# Altium integrated library Microchip Microcontroller 8-Bit PIC16F.IntLib: 732 symbols (part 13 of 26)
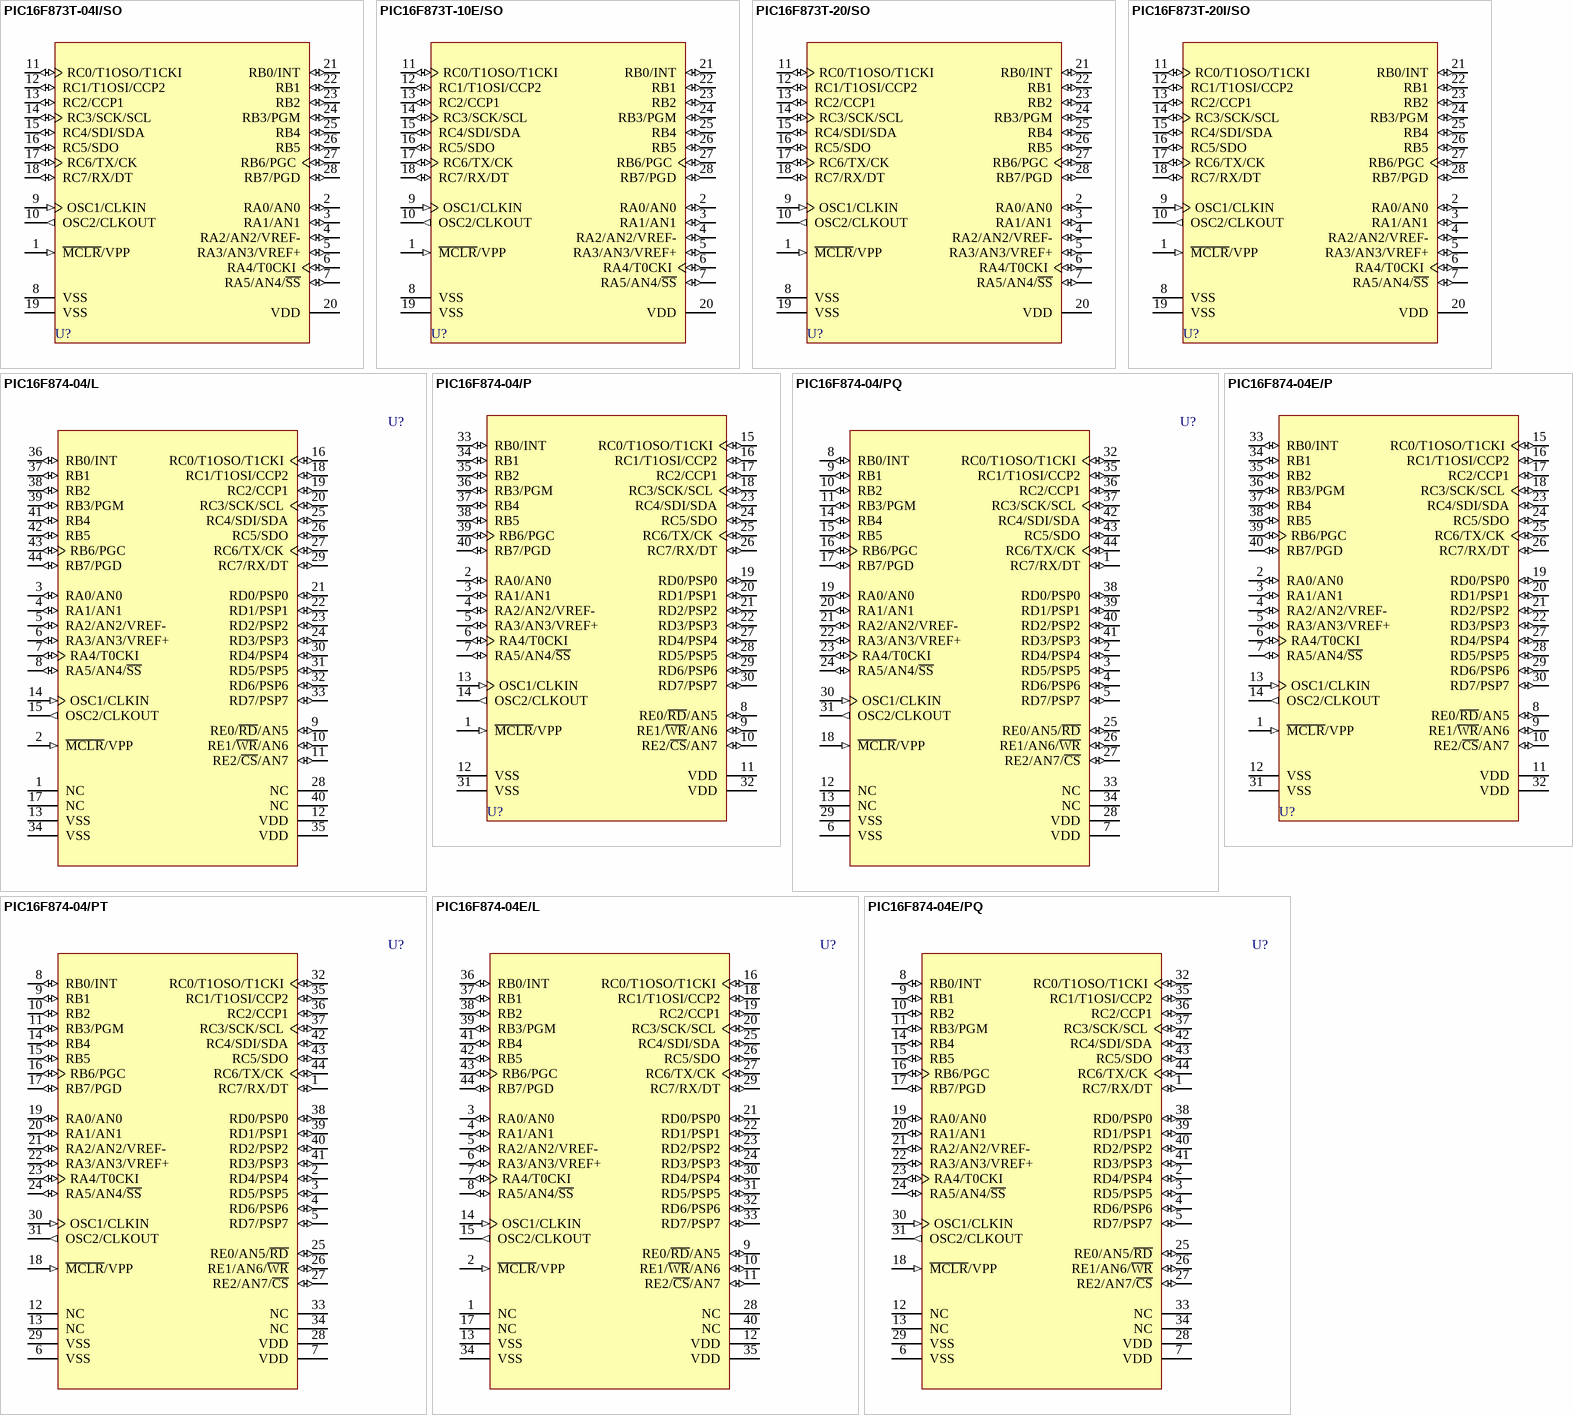
[diagram p65: symbols PIC16F873T-04I/SO to PIC16F874-04E/PQ]

## PIC16F874-04E/P
designator U?
8-Bit CMOS FLASH Microcontroller, 4K x 14 words FLASH, 192 x 8 Bytes RAM, 4 MHz, 40-Pin PDIP, 4 to 5.5V VDD Range, Extended Temperature; Note: Not recommended for new designs. Consider PIC16F874A instead.; Published: 11-Oct-2004; LatestRevisionDate: 04-Mar-2005; LatestRevisionNote: Stylized 3D Model Added.; DatasheetVersion: DS30292C_2001; PackageVersion: 2003; PackageReference: PDIP600-40; Publisher: Altium Limited; PackageDescription: DIP, Plastic; 40 Leads; Row Spacing 15.24 mm; Pitch 2.54 mm; Code_JEDEC: MO-011; ComponentLink1Description: Manufacturer Link; ComponentLink1URL: http://www.microchip.com; ComponentLink2Description: Datasheet; ComponentLink2URL: http://ww1.microchip.com/downloads/en/DeviceDoc/30292c.pdf; ComponentLink3Description: Packaging Specification; ComponentLink3URL: http://ww1.microchip.com/downloads/en/PackagingSpec/00049AD.pdf
footprint PDIP600-40 (DIP, Plastic; 40 Leads; Row Spacing 15.24 mm; Pitch 2.54 mm)
3D model PDIP600-40 (DIP, Plastic; 40 Leads; Row Spacing 15.24 mm; Pitch 2.54 mm)
pins: 1 ~{MCLR}/VPP (in), 2 RA0/AN0 (io), 3 RA1/AN1 (io), 4 RA2/AN2/VREF- (io), 5 RA3/AN3/VREF+ (io), 6 RA4/T0CKI (io), 7 RA5/AN4/~{SS} (io), 8 RE0/~{RD}/AN5 (io), 9 RE1/~{WR}/AN6 (io), 10 RE2/~{CS}/AN7 (io), 11 VDD (power), 12 VSS (power), 13 OSC1/CLKIN (in), 14 OSC2/CLKOUT (out), 15 RC0/T1OSO/T1CKI (io), 16 RC1/T1OSI/CCP2 (io), 17 RC2/CCP1 (io), 18 RC3/SCK/SCL (io), 19 RD0/PSP0 (io), 20 RD1/PSP1 (io), 21 RD2/PSP2 (io), 22 RD3/PSP3 (io), 23 RC4/SDI/SDA (io), 24 RC5/SDO (io), 25 RC6/TX/CK (io), 26 RC7/RX/DT (io), 27 RD4/PSP4 (io), 28 RD5/PSP5 (io), 29 RD6/PSP6 (io), 30 RD7/PSP7 (io), 31 VSS (power), 32 VDD (power), 33 RB0/INT (io), 34 RB1 (io), 35 RB2 (io), 36 RB3/PGM (io), 37 RB4 (io), 38 RB5 (io), 39 RB6/PGC (io), 40 RB7/PGD (io)

## PIC16F874-04E/PQ
designator U?
8-Bit CMOS FLASH Microcontroller, 4K x 14 words FLASH, 192 x 8 Bytes RAM, 4 MHz, 44-Pin MQFP, 4 to 5.5V VDD Range, Extended Temperature; Note: Not recommended for new designs. Consider PIC16F874A instead.; Published: 11-Oct-2004; LatestRevisionDate: 13-Apr-2006; LatestRevisionNote: IPC-7351 Footprint Added.; DatasheetVersion: DS30292C_2001; PackageVersion: 2003; PackageReference: MQFP-44; Publisher: Altium Limited; PackageDescription: 44-Pin Plastic Metric Quad Flat Pack 0.8 mm Pitch, 1.6/0.15 mm Lead Form; Code_JEDEC: MS-022; Code_IPC: QFP80P1320X1320-44; ComponentLink1Description: Manufacturer Link; ComponentLink1URL: http://www.microchip.com; ComponentLink2Description: Datasheet; ComponentLink2URL: http://ww1.microchip.com/downloads/en/DeviceDoc/30292c.pdf; ComponentLink3Description: Packaging Specification; ComponentLink3URL: http://ww1.microchip.com/downloads/en/PackagingSpec/00049AD.pdf
footprint MQFP-44_N (QFP, 44-Leads, Body 10x10mm, Pitch 0.8mm, IPC Medium Density)
footprint MQFP-44_L (QFP, 44-Leads, Body 10x10mm, Pitch 0.8mm, IPC High Density)
footprint MQFP-44_M (QFP, 44-Leads, Body 10x10mm, Pitch 0.8mm, IPC Low Density)
3D model PIC16F874-MQFP-44 (44-Pin Plastic Metric Quad Flat Pack 0.8 mm Pitch, 1.6/0.15 mm Lead Form)
pins: 1 RC7/RX/DT (io), 2 RD4/PSP4 (io), 3 RD5/PSP5 (io), 4 RD6/PSP6 (io), 5 RD7/PSP7 (io), 6 VSS (power), 7 VDD (power), 8 RB0/INT (io), 9 RB1 (io), 10 RB2 (io), 11 RB3/PGM (io), 12 NC, 13 NC, 14 RB4 (io), 15 RB5 (io), 16 RB6/PGC (io), 17 RB7/PGD (io), 18 ~{MCLR}/VPP (in), 19 RA0/AN0 (io), 20 RA1/AN1 (io), 21 RA2/AN2/VREF- (io), 22 RA3/AN3/VREF+ (io), 23 RA4/T0CKI (io), 24 RA5/AN4/~{SS} (io), 25 RE0/AN5/~{RD} (io), 26 RE1/AN6/~{WR} (io), 27 RE2/AN7/~{CS} (io), 28 VDD (power), 29 VSS (power), 30 OSC1/CLKIN (in), 31 OSC2/CLKOUT (out), 32 RC0/T1OSO/T1CKI (io), 33 NC, 34 NC, 35 RC1/T1OSI/CCP2 (io), 36 RC2/CCP1 (io), 37 RC3/SCK/SCL (io), 38 RD0/PSP0 (io), 39 RD1/PSP1 (io), 40 RD2/PSP2 (io), 41 RD3/PSP3 (io), 42 RC4/SDI/SDA (io), 43 RC5/SDO (io), 44 RC6/TX/CK (io)

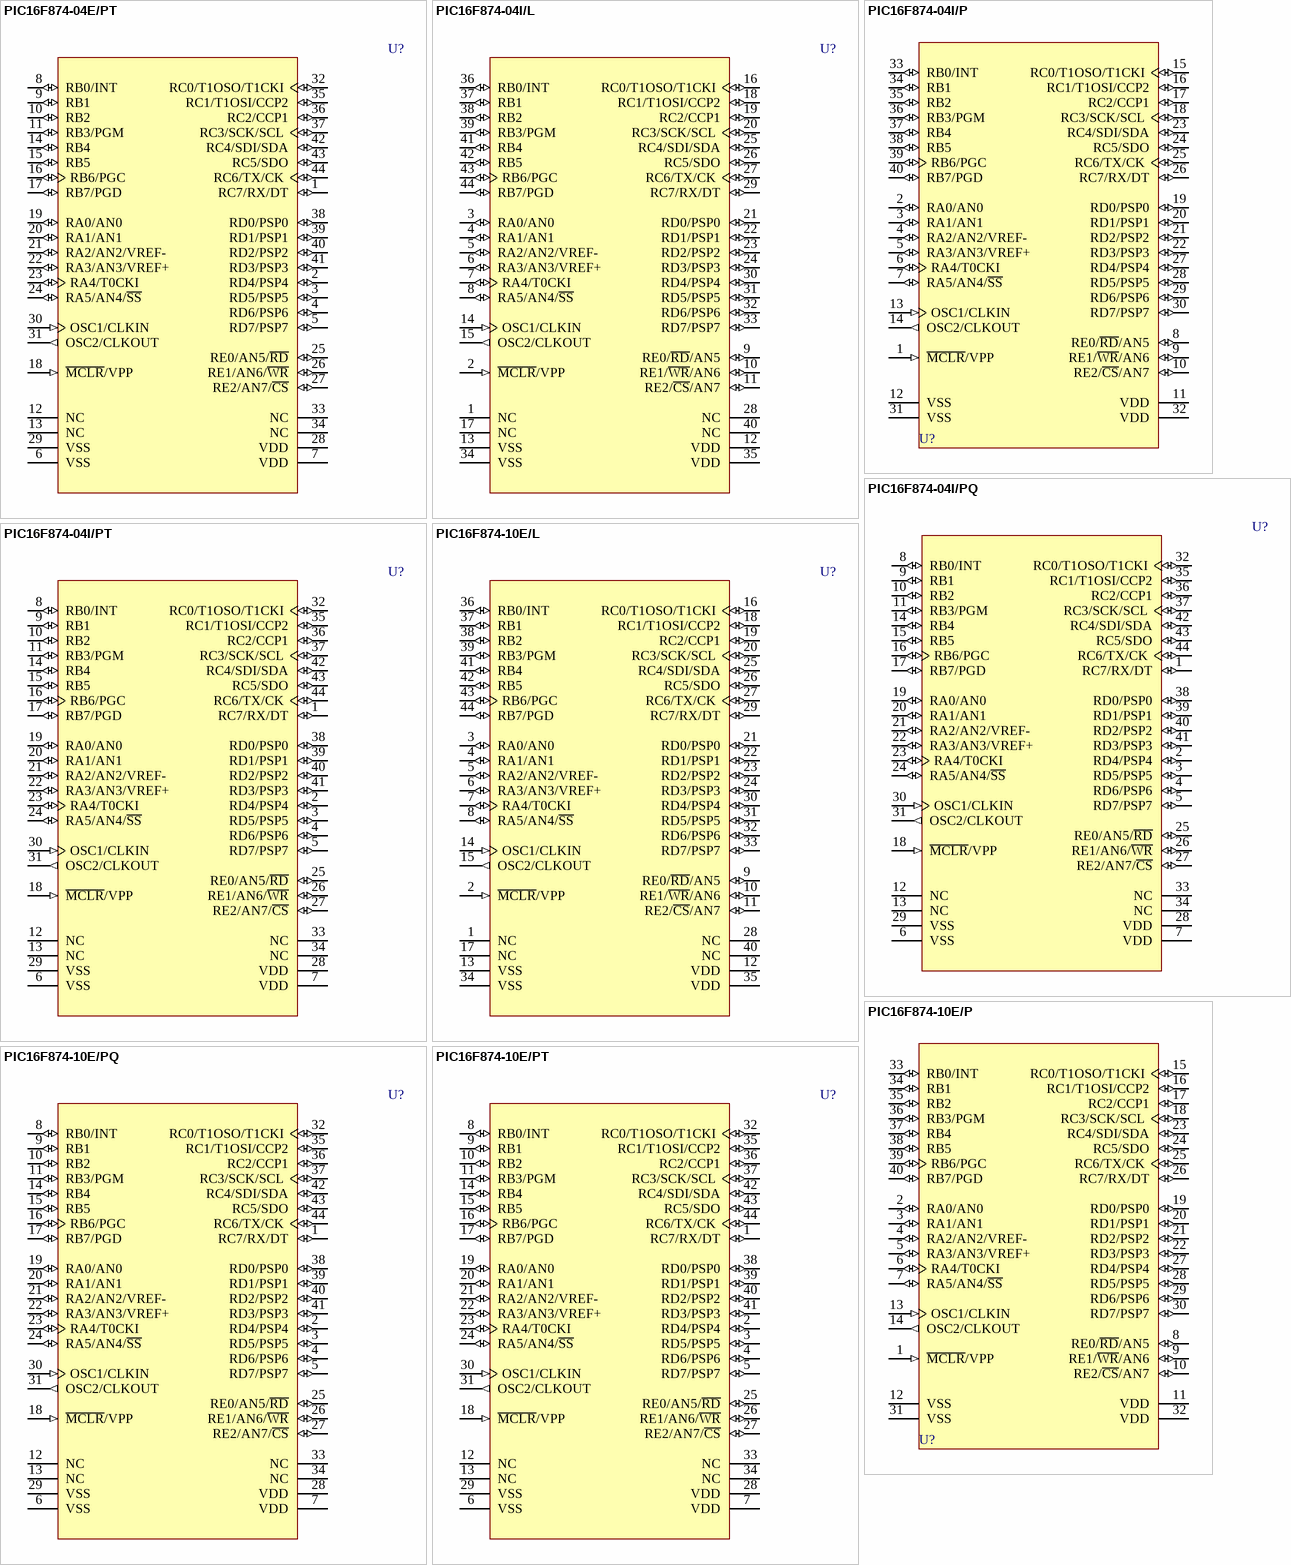
[diagram p23: symbols PIC16F874-04E/PT to PIC16F874-10E/PT]

## PIC16F874-04E/PT
designator U?
8-Bit CMOS FLASH Microcontroller, 4K x 14 words FLASH, 192 x 8 Bytes RAM, 4 MHz, 44-Pin TQFP, 4 to 5.5V VDD Range, Extended Temperature; Note: Not recommended for new designs. Consider PIC16F874A instead.; Published: 11-Oct-2004; LatestRevisionDate: 13-Apr-2006; LatestRevisionNote: IPC-7351 Footprint Added.; DatasheetVersion: DS30292C_2001; PackageVersion: 2003; PackageReference: TQFP-44; Publisher: Altium Limited; PackageDescription: 44-Pin Thin Quad Flat Pack 0.8 mm Pitch, 1.0/0.1 mm Lead Form; Code_JEDEC: MS-026; ComponentLink1Description: Manufacturer Link; ComponentLink1URL: http://www.microchip.com; ComponentLink2Description: Datasheet; ComponentLink2URL: http://ww1.microchip.com/downloads/en/DeviceDoc/30292c.pdf; ComponentLink3Description: Packaging Specification; ComponentLink3URL: http://ww1.microchip.com/downloads/en/PackagingSpec/00049AD.pdf
footprint TQFP-44_N (Thin QFP, 44-Leads, Body 10x10mm, Pitch 0.8mm, IPC Medium Density)
footprint TQFP-44_L (Thin QFP, 44-Leads, Body 10x10mm, Pitch 0.8mm, IPC High Density)
footprint TQFP-44_M (Thin QFP, 44-Leads, Body 10x10mm, Pitch 0.8mm, IPC Low Density)
3D model PIC16F874-TQFP-44 (44-Pin Thin Quad Flat Pack 0.8 mm Pitch, 1.0/0.1 mm Lead Form)
pins: 1 RC7/RX/DT (io), 2 RD4/PSP4 (io), 3 RD5/PSP5 (io), 4 RD6/PSP6 (io), 5 RD7/PSP7 (io), 6 VSS (power), 7 VDD (power), 8 RB0/INT (io), 9 RB1 (io), 10 RB2 (io), 11 RB3/PGM (io), 12 NC, 13 NC, 14 RB4 (io), 15 RB5 (io), 16 RB6/PGC (io), 17 RB7/PGD (io), 18 ~{MCLR}/VPP (in), 19 RA0/AN0 (io), 20 RA1/AN1 (io), 21 RA2/AN2/VREF- (io), 22 RA3/AN3/VREF+ (io), 23 RA4/T0CKI (io), 24 RA5/AN4/~{SS} (io), 25 RE0/AN5/~{RD} (io), 26 RE1/AN6/~{WR} (io), 27 RE2/AN7/~{CS} (io), 28 VDD (power), 29 VSS (power), 30 OSC1/CLKIN (in), 31 OSC2/CLKOUT (out), 32 RC0/T1OSO/T1CKI (io), 33 NC, 34 NC, 35 RC1/T1OSI/CCP2 (io), 36 RC2/CCP1 (io), 37 RC3/SCK/SCL (io), 38 RD0/PSP0 (io), 39 RD1/PSP1 (io), 40 RD2/PSP2 (io), 41 RD3/PSP3 (io), 42 RC4/SDI/SDA (io), 43 RC5/SDO (io), 44 RC6/TX/CK (io)

## PIC16F874-04I/L
designator U?
8-Bit CMOS FLASH Microcontroller, 4K x 14 words FLASH, 192 x 8 Bytes RAM, 4 MHz, 44-Pin PLCC, 4 to 5.5V VDD Range, Industrial Temperature; Note: Not recommended for new designs. Consider PIC16F874A instead.; Published: 11-Oct-2004; LatestRevisionDate: 13-Apr-2006; LatestRevisionNote: IPC-7351 Footprint Added.; DatasheetVersion: DS30292C_2001; PackageVersion: 2003; PackageReference: PLCC-44; Publisher: Altium Limited; PackageDescription: 44-Pin Leaded Chip Carrier 1.27 mm Pitch; Code_JEDEC: MO-047; Code_IPC: PLCC-44; ComponentLink1Description: Manufacturer Link; ComponentLink1URL: http://www.microchip.com; ComponentLink2Description: Datasheet; ComponentLink2URL: http://ww1.microchip.com/downloads/en/DeviceDoc/30292c.pdf; ComponentLink3Description: Packaging Specification; ComponentLink3URL: http://ww1.microchip.com/downloads/en/PackagingSpec/00049AD.pdf
footprint PLCC-44_N (Leaded Chip Carrier, 44-Leads, Body 16.6x16.6mm, Pitch 1.27mm, IPC Medium Density)
footprint PLCC-44_L (Leaded Chip Carrier, 44-Leads, Body 16.6x16.6mm, Pitch 1.27mm, IPC High Density)
footprint PLCC-44_M (Leaded Chip Carrier, 44-Leads, Body 16.6x16.6mm, Pitch 1.27mm, IPC Low Density)
3D model PIC16F874-PLCC-44 (44-Pin Leaded Chip Carrier 1.27 mm Pitch)
pins: 1 NC, 2 ~{MCLR}/VPP (in), 3 RA0/AN0 (io), 4 RA1/AN1 (io), 5 RA2/AN2/VREF- (io), 6 RA3/AN3/VREF+ (io), 7 RA4/T0CKI (io), 8 RA5/AN4/~{SS} (io), 9 RE0/~{RD}/AN5 (io), 10 RE1/~{WR}/AN6 (io), 11 RE2/~{CS}/AN7 (io), 12 VDD (power), 13 VSS (power), 14 OSC1/CLKIN (in), 15 OSC2/CLKOUT (out), 16 RC0/T1OSO/T1CKI (io), 17 NC, 18 RC1/T1OSI/CCP2 (io), 19 RC2/CCP1 (io), 20 RC3/SCK/SCL (io), 21 RD0/PSP0 (io), 22 RD1/PSP1 (io), 23 RD2/PSP2 (io), 24 RD3/PSP3 (io), 25 RC4/SDI/SDA (io), 26 RC5/SDO (io), 27 RC6/TX/CK (io), 28 NC, 29 RC7/RX/DT (io), 30 RD4/PSP4 (io), 31 RD5/PSP5 (io), 32 RD6/PSP6 (io), 33 RD7/PSP7 (io), 34 VSS (power), 35 VDD (power), 36 RB0/INT (io), 37 RB1 (io), 38 RB2 (io), 39 RB3/PGM (io), 40 NC, 41 RB4 (io), 42 RB5 (io), 43 RB6/PGC (io), 44 RB7/PGD (io)

## PIC16F874-04I/P
designator U?
8-Bit CMOS FLASH Microcontroller, 4K x 14 words FLASH, 192 x 8 Bytes RAM, 4 MHz, 40-Pin PDIP, 4 to 5.5V VDD Range, Industrial Temperature; Note: Not recommended for new designs. Consider PIC16F874A instead.; Published: 11-Oct-2004; LatestRevisionDate: 04-Mar-2005; LatestRevisionNote: Stylized 3D Model Added.; DatasheetVersion: DS30292C_2001; PackageVersion: 2003; PackageReference: PDIP600-40; Publisher: Altium Limited; PackageDescription: DIP, Plastic; 40 Leads; Row Spacing 15.24 mm; Pitch 2.54 mm; Code_JEDEC: MO-011; ComponentLink1Description: Manufacturer Link; ComponentLink1URL: http://www.microchip.com; ComponentLink2Description: Datasheet; ComponentLink2URL: http://ww1.microchip.com/downloads/en/DeviceDoc/30292c.pdf; ComponentLink3Description: Packaging Specification; ComponentLink3URL: http://ww1.microchip.com/downloads/en/PackagingSpec/00049AD.pdf
footprint PDIP600-40 (DIP, Plastic; 40 Leads; Row Spacing 15.24 mm; Pitch 2.54 mm)
3D model PDIP600-40 (DIP, Plastic; 40 Leads; Row Spacing 15.24 mm; Pitch 2.54 mm)
pins: 1 ~{MCLR}/VPP (in), 2 RA0/AN0 (io), 3 RA1/AN1 (io), 4 RA2/AN2/VREF- (io), 5 RA3/AN3/VREF+ (io), 6 RA4/T0CKI (io), 7 RA5/AN4/~{SS} (io), 8 RE0/~{RD}/AN5 (io), 9 RE1/~{WR}/AN6 (io), 10 RE2/~{CS}/AN7 (io), 11 VDD (power), 12 VSS (power), 13 OSC1/CLKIN (in), 14 OSC2/CLKOUT (out), 15 RC0/T1OSO/T1CKI (io), 16 RC1/T1OSI/CCP2 (io), 17 RC2/CCP1 (io), 18 RC3/SCK/SCL (io), 19 RD0/PSP0 (io), 20 RD1/PSP1 (io), 21 RD2/PSP2 (io), 22 RD3/PSP3 (io), 23 RC4/SDI/SDA (io), 24 RC5/SDO (io), 25 RC6/TX/CK (io), 26 RC7/RX/DT (io), 27 RD4/PSP4 (io), 28 RD5/PSP5 (io), 29 RD6/PSP6 (io), 30 RD7/PSP7 (io), 31 VSS (power), 32 VDD (power), 33 RB0/INT (io), 34 RB1 (io), 35 RB2 (io), 36 RB3/PGM (io), 37 RB4 (io), 38 RB5 (io), 39 RB6/PGC (io), 40 RB7/PGD (io)

## PIC16F874-04I/PQ
designator U?
8-Bit CMOS FLASH Microcontroller, 4K x 14 words FLASH, 192 x 8 Bytes RAM, 4 MHz, 44-Pin MQFP, 4 to 5.5V VDD Range, Industrial Temperature; Note: Not recommended for new designs. Consider PIC16F874A instead.; Published: 11-Oct-2004; LatestRevisionDate: 13-Apr-2006; LatestRevisionNote: IPC-7351 Footprint Added.; DatasheetVersion: DS30292C_2001; PackageVersion: 2003; PackageReference: MQFP-44; Publisher: Altium Limited; PackageDescription: 44-Pin Plastic Metric Quad Flat Pack 0.8 mm Pitch, 1.6/0.15 mm Lead Form; Code_JEDEC: MS-022; Code_IPC: QFP80P1320X1320-44; ComponentLink1Description: Manufacturer Link; ComponentLink1URL: http://www.microchip.com; ComponentLink2Description: Datasheet; ComponentLink2URL: http://ww1.microchip.com/downloads/en/DeviceDoc/30292c.pdf; ComponentLink3Description: Packaging Specification; ComponentLink3URL: http://ww1.microchip.com/downloads/en/PackagingSpec/00049AD.pdf
footprint MQFP-44_N (QFP, 44-Leads, Body 10x10mm, Pitch 0.8mm, IPC Medium Density)
footprint MQFP-44_L (QFP, 44-Leads, Body 10x10mm, Pitch 0.8mm, IPC High Density)
footprint MQFP-44_M (QFP, 44-Leads, Body 10x10mm, Pitch 0.8mm, IPC Low Density)
3D model PIC16F874-MQFP-44 (44-Pin Plastic Metric Quad Flat Pack 0.8 mm Pitch, 1.6/0.15 mm Lead Form)
pins: 1 RC7/RX/DT (io), 2 RD4/PSP4 (io), 3 RD5/PSP5 (io), 4 RD6/PSP6 (io), 5 RD7/PSP7 (io), 6 VSS (power), 7 VDD (power), 8 RB0/INT (io), 9 RB1 (io), 10 RB2 (io), 11 RB3/PGM (io), 12 NC, 13 NC, 14 RB4 (io), 15 RB5 (io), 16 RB6/PGC (io), 17 RB7/PGD (io), 18 ~{MCLR}/VPP (in), 19 RA0/AN0 (io), 20 RA1/AN1 (io), 21 RA2/AN2/VREF- (io), 22 RA3/AN3/VREF+ (io), 23 RA4/T0CKI (io), 24 RA5/AN4/~{SS} (io), 25 RE0/AN5/~{RD} (io), 26 RE1/AN6/~{WR} (io), 27 RE2/AN7/~{CS} (io), 28 VDD (power), 29 VSS (power), 30 OSC1/CLKIN (in), 31 OSC2/CLKOUT (out), 32 RC0/T1OSO/T1CKI (io), 33 NC, 34 NC, 35 RC1/T1OSI/CCP2 (io), 36 RC2/CCP1 (io), 37 RC3/SCK/SCL (io), 38 RD0/PSP0 (io), 39 RD1/PSP1 (io), 40 RD2/PSP2 (io), 41 RD3/PSP3 (io), 42 RC4/SDI/SDA (io), 43 RC5/SDO (io), 44 RC6/TX/CK (io)

## PIC16F874-04I/PT
designator U?
8-Bit CMOS FLASH Microcontroller, 4K x 14 words FLASH, 192 x 8 Bytes RAM, 4 MHz, 44-Pin TQFP, 4 to 5.5V VDD Range, Industrial Temperature; Note: Not recommended for new designs. Consider PIC16F874A instead.; Published: 11-Oct-2004; LatestRevisionDate: 13-Apr-2006; LatestRevisionNote: IPC-7351 Footprint Added.; DatasheetVersion: DS30292C_2001; PackageVersion: 2003; PackageReference: TQFP-44; Publisher: Altium Limited; PackageDescription: 44-Pin Thin Quad Flat Pack 0.8 mm Pitch, 1.0/0.1 mm Lead Form; Code_JEDEC: MS-026; ComponentLink1Description: Manufacturer Link; ComponentLink1URL: http://www.microchip.com; ComponentLink2Description: Datasheet; ComponentLink2URL: http://ww1.microchip.com/downloads/en/DeviceDoc/30292c.pdf; ComponentLink3Description: Packaging Specification; ComponentLink3URL: http://ww1.microchip.com/downloads/en/PackagingSpec/00049AD.pdf
footprint TQFP-44_N (Thin QFP, 44-Leads, Body 10x10mm, Pitch 0.8mm, IPC Medium Density)
footprint TQFP-44_L (Thin QFP, 44-Leads, Body 10x10mm, Pitch 0.8mm, IPC High Density)
footprint TQFP-44_M (Thin QFP, 44-Leads, Body 10x10mm, Pitch 0.8mm, IPC Low Density)
3D model PIC16F874-TQFP-44 (44-Pin Thin Quad Flat Pack 0.8 mm Pitch, 1.0/0.1 mm Lead Form)
pins: 1 RC7/RX/DT (io), 2 RD4/PSP4 (io), 3 RD5/PSP5 (io), 4 RD6/PSP6 (io), 5 RD7/PSP7 (io), 6 VSS (power), 7 VDD (power), 8 RB0/INT (io), 9 RB1 (io), 10 RB2 (io), 11 RB3/PGM (io), 12 NC, 13 NC, 14 RB4 (io), 15 RB5 (io), 16 RB6/PGC (io), 17 RB7/PGD (io), 18 ~{MCLR}/VPP (in), 19 RA0/AN0 (io), 20 RA1/AN1 (io), 21 RA2/AN2/VREF- (io), 22 RA3/AN3/VREF+ (io), 23 RA4/T0CKI (io), 24 RA5/AN4/~{SS} (io), 25 RE0/AN5/~{RD} (io), 26 RE1/AN6/~{WR} (io), 27 RE2/AN7/~{CS} (io), 28 VDD (power), 29 VSS (power), 30 OSC1/CLKIN (in), 31 OSC2/CLKOUT (out), 32 RC0/T1OSO/T1CKI (io), 33 NC, 34 NC, 35 RC1/T1OSI/CCP2 (io), 36 RC2/CCP1 (io), 37 RC3/SCK/SCL (io), 38 RD0/PSP0 (io), 39 RD1/PSP1 (io), 40 RD2/PSP2 (io), 41 RD3/PSP3 (io), 42 RC4/SDI/SDA (io), 43 RC5/SDO (io), 44 RC6/TX/CK (io)

## PIC16F874-10E/L
designator U?
8-Bit CMOS FLASH Microcontroller, 4K x 14 words FLASH, 192 x 8 Bytes RAM, 10 MHz, 44-Pin PLCC, 4 to 5.5V VDD Range, Extended Temperature; Note: Not recommended for new designs. Consider PIC16F874A instead.; Published: 11-Oct-2004; LatestRevisionDate: 13-Apr-2006; LatestRevisionNote: IPC-7351 Footprint Added.; DatasheetVersion: DS30292C_2001; PackageVersion: 2003; PackageReference: PLCC-44; Publisher: Altium Limited; PackageDescription: 44-Pin Leaded Chip Carrier 1.27 mm Pitch; Code_JEDEC: MO-047; Code_IPC: PLCC-44; ComponentLink1Description: Manufacturer Link; ComponentLink1URL: http://www.microchip.com; ComponentLink2Description: Datasheet; ComponentLink2URL: http://ww1.microchip.com/downloads/en/DeviceDoc/30292c.pdf; ComponentLink3Description: Packaging Specification; ComponentLink3URL: http://ww1.microchip.com/downloads/en/PackagingSpec/00049AD.pdf
footprint PLCC-44_N (Leaded Chip Carrier, 44-Leads, Body 16.6x16.6mm, Pitch 1.27mm, IPC Medium Density)
footprint PLCC-44_L (Leaded Chip Carrier, 44-Leads, Body 16.6x16.6mm, Pitch 1.27mm, IPC High Density)
footprint PLCC-44_M (Leaded Chip Carrier, 44-Leads, Body 16.6x16.6mm, Pitch 1.27mm, IPC Low Density)
3D model PIC16F874-PLCC-44 (44-Pin Leaded Chip Carrier 1.27 mm Pitch)
pins: 1 NC, 2 ~{MCLR}/VPP (in), 3 RA0/AN0 (io), 4 RA1/AN1 (io), 5 RA2/AN2/VREF- (io), 6 RA3/AN3/VREF+ (io), 7 RA4/T0CKI (io), 8 RA5/AN4/~{SS} (io), 9 RE0/~{RD}/AN5 (io), 10 RE1/~{WR}/AN6 (io), 11 RE2/~{CS}/AN7 (io), 12 VDD (power), 13 VSS (power), 14 OSC1/CLKIN (in), 15 OSC2/CLKOUT (out), 16 RC0/T1OSO/T1CKI (io), 17 NC, 18 RC1/T1OSI/CCP2 (io), 19 RC2/CCP1 (io), 20 RC3/SCK/SCL (io), 21 RD0/PSP0 (io), 22 RD1/PSP1 (io), 23 RD2/PSP2 (io), 24 RD3/PSP3 (io), 25 RC4/SDI/SDA (io), 26 RC5/SDO (io), 27 RC6/TX/CK (io), 28 NC, 29 RC7/RX/DT (io), 30 RD4/PSP4 (io), 31 RD5/PSP5 (io), 32 RD6/PSP6 (io), 33 RD7/PSP7 (io), 34 VSS (power), 35 VDD (power), 36 RB0/INT (io), 37 RB1 (io), 38 RB2 (io), 39 RB3/PGM (io), 40 NC, 41 RB4 (io), 42 RB5 (io), 43 RB6/PGC (io), 44 RB7/PGD (io)

## PIC16F874-10E/P
designator U?
8-Bit CMOS FLASH Microcontroller, 4K x 14 words FLASH, 192 x 8 Bytes RAM, 10 MHz, 40-Pin PDIP, 4 to 5.5V VDD Range, Extended Temperature; Note: Not recommended for new designs. Consider PIC16F874A instead.; Published: 11-Oct-2004; LatestRevisionDate: 04-Mar-2005; LatestRevisionNote: Stylized 3D Model Added.; DatasheetVersion: DS30292C_2001; PackageVersion: 2003; PackageReference: PDIP600-40; Publisher: Altium Limited; PackageDescription: DIP, Plastic; 40 Leads; Row Spacing 15.24 mm; Pitch 2.54 mm; Code_JEDEC: MO-011; ComponentLink1Description: Manufacturer Link; ComponentLink1URL: http://www.microchip.com; ComponentLink2Description: Datasheet; ComponentLink2URL: http://ww1.microchip.com/downloads/en/DeviceDoc/30292c.pdf; ComponentLink3Description: Packaging Specification; ComponentLink3URL: http://ww1.microchip.com/downloads/en/PackagingSpec/00049AD.pdf
footprint PDIP600-40 (DIP, Plastic; 40 Leads; Row Spacing 15.24 mm; Pitch 2.54 mm)
3D model PDIP600-40 (DIP, Plastic; 40 Leads; Row Spacing 15.24 mm; Pitch 2.54 mm)
pins: 1 ~{MCLR}/VPP (in), 2 RA0/AN0 (io), 3 RA1/AN1 (io), 4 RA2/AN2/VREF- (io), 5 RA3/AN3/VREF+ (io), 6 RA4/T0CKI (io), 7 RA5/AN4/~{SS} (io), 8 RE0/~{RD}/AN5 (io), 9 RE1/~{WR}/AN6 (io), 10 RE2/~{CS}/AN7 (io), 11 VDD (power), 12 VSS (power), 13 OSC1/CLKIN (in), 14 OSC2/CLKOUT (out), 15 RC0/T1OSO/T1CKI (io), 16 RC1/T1OSI/CCP2 (io), 17 RC2/CCP1 (io), 18 RC3/SCK/SCL (io), 19 RD0/PSP0 (io), 20 RD1/PSP1 (io), 21 RD2/PSP2 (io), 22 RD3/PSP3 (io), 23 RC4/SDI/SDA (io), 24 RC5/SDO (io), 25 RC6/TX/CK (io), 26 RC7/RX/DT (io), 27 RD4/PSP4 (io), 28 RD5/PSP5 (io), 29 RD6/PSP6 (io), 30 RD7/PSP7 (io), 31 VSS (power), 32 VDD (power), 33 RB0/INT (io), 34 RB1 (io), 35 RB2 (io), 36 RB3/PGM (io), 37 RB4 (io), 38 RB5 (io), 39 RB6/PGC (io), 40 RB7/PGD (io)

## PIC16F874-10E/PQ
designator U?
8-Bit CMOS FLASH Microcontroller, 4K x 14 words FLASH, 192 x 8 Bytes RAM, 10 MHz, 44-Pin MQFP, 4 to 5.5V VDD Range, Extended Temperature; Note: Not recommended for new designs. Consider PIC16F874A instead.; Published: 11-Oct-2004; LatestRevisionDate: 13-Apr-2006; LatestRevisionNote: IPC-7351 Footprint Added.; DatasheetVersion: DS30292C_2001; PackageVersion: 2003; PackageReference: MQFP-44; Publisher: Altium Limited; PackageDescription: 44-Pin Plastic Metric Quad Flat Pack 0.8 mm Pitch, 1.6/0.15 mm Lead Form; Code_JEDEC: MS-022; Code_IPC: QFP80P1320X1320-44; ComponentLink1Description: Manufacturer Link; ComponentLink1URL: http://www.microchip.com; ComponentLink2Description: Datasheet; ComponentLink2URL: http://ww1.microchip.com/downloads/en/DeviceDoc/30292c.pdf; ComponentLink3Description: Packaging Specification; ComponentLink3URL: http://ww1.microchip.com/downloads/en/PackagingSpec/00049AD.pdf
footprint MQFP-44_N (QFP, 44-Leads, Body 10x10mm, Pitch 0.8mm, IPC Medium Density)
footprint MQFP-44_L (QFP, 44-Leads, Body 10x10mm, Pitch 0.8mm, IPC High Density)
footprint MQFP-44_M (QFP, 44-Leads, Body 10x10mm, Pitch 0.8mm, IPC Low Density)
3D model PIC16F874-MQFP-44 (44-Pin Plastic Metric Quad Flat Pack 0.8 mm Pitch, 1.6/0.15 mm Lead Form)
pins: 1 RC7/RX/DT (io), 2 RD4/PSP4 (io), 3 RD5/PSP5 (io), 4 RD6/PSP6 (io), 5 RD7/PSP7 (io), 6 VSS (power), 7 VDD (power), 8 RB0/INT (io), 9 RB1 (io), 10 RB2 (io), 11 RB3/PGM (io), 12 NC, 13 NC, 14 RB4 (io), 15 RB5 (io), 16 RB6/PGC (io), 17 RB7/PGD (io), 18 ~{MCLR}/VPP (in), 19 RA0/AN0 (io), 20 RA1/AN1 (io), 21 RA2/AN2/VREF- (io), 22 RA3/AN3/VREF+ (io), 23 RA4/T0CKI (io), 24 RA5/AN4/~{SS} (io), 25 RE0/AN5/~{RD} (io), 26 RE1/AN6/~{WR} (io), 27 RE2/AN7/~{CS} (io), 28 VDD (power), 29 VSS (power), 30 OSC1/CLKIN (in), 31 OSC2/CLKOUT (out), 32 RC0/T1OSO/T1CKI (io), 33 NC, 34 NC, 35 RC1/T1OSI/CCP2 (io), 36 RC2/CCP1 (io), 37 RC3/SCK/SCL (io), 38 RD0/PSP0 (io), 39 RD1/PSP1 (io), 40 RD2/PSP2 (io), 41 RD3/PSP3 (io), 42 RC4/SDI/SDA (io), 43 RC5/SDO (io), 44 RC6/TX/CK (io)

## PIC16F874-10E/PT
designator U?
8-Bit CMOS FLASH Microcontroller, 4K x 14 words FLASH, 192 x 8 Bytes RAM, 10 MHz, 44-Pin TQFP, 4 to 5.5V VDD Range, Extended Temperature; Note: Not recommended for new designs. Consider PIC16F874A instead.; Published: 11-Oct-2004; LatestRevisionDate: 13-Apr-2006; LatestRevisionNote: IPC-7351 Footprint Added.; DatasheetVersion: DS30292C_2001; PackageVersion: 2003; PackageReference: TQFP-44; Publisher: Altium Limited; PackageDescription: 44-Pin Thin Quad Flat Pack 0.8 mm Pitch, 1.0/0.1 mm Lead Form; Code_JEDEC: MS-026; ComponentLink1Description: Manufacturer Link; ComponentLink1URL: http://www.microchip.com; ComponentLink2Description: Datasheet; ComponentLink2URL: http://ww1.microchip.com/downloads/en/DeviceDoc/30292c.pdf; ComponentLink3Description: Packaging Specification; ComponentLink3URL: http://ww1.microchip.com/downloads/en/PackagingSpec/00049AD.pdf
footprint TQFP-44_N (Thin QFP, 44-Leads, Body 10x10mm, Pitch 0.8mm, IPC Medium Density)
footprint TQFP-44_L (Thin QFP, 44-Leads, Body 10x10mm, Pitch 0.8mm, IPC High Density)
footprint TQFP-44_M (Thin QFP, 44-Leads, Body 10x10mm, Pitch 0.8mm, IPC Low Density)
3D model PIC16F874-TQFP-44 (44-Pin Thin Quad Flat Pack 0.8 mm Pitch, 1.0/0.1 mm Lead Form)
pins: 1 RC7/RX/DT (io), 2 RD4/PSP4 (io), 3 RD5/PSP5 (io), 4 RD6/PSP6 (io), 5 RD7/PSP7 (io), 6 VSS (power), 7 VDD (power), 8 RB0/INT (io), 9 RB1 (io), 10 RB2 (io), 11 RB3/PGM (io), 12 NC, 13 NC, 14 RB4 (io), 15 RB5 (io), 16 RB6/PGC (io), 17 RB7/PGD (io), 18 ~{MCLR}/VPP (in), 19 RA0/AN0 (io), 20 RA1/AN1 (io), 21 RA2/AN2/VREF- (io), 22 RA3/AN3/VREF+ (io), 23 RA4/T0CKI (io), 24 RA5/AN4/~{SS} (io), 25 RE0/AN5/~{RD} (io), 26 RE1/AN6/~{WR} (io), 27 RE2/AN7/~{CS} (io), 28 VDD (power), 29 VSS (power), 30 OSC1/CLKIN (in), 31 OSC2/CLKOUT (out), 32 RC0/T1OSO/T1CKI (io), 33 NC, 34 NC, 35 RC1/T1OSI/CCP2 (io), 36 RC2/CCP1 (io), 37 RC3/SCK/SCL (io), 38 RD0/PSP0 (io), 39 RD1/PSP1 (io), 40 RD2/PSP2 (io), 41 RD3/PSP3 (io), 42 RC4/SDI/SDA (io), 43 RC5/SDO (io), 44 RC6/TX/CK (io)

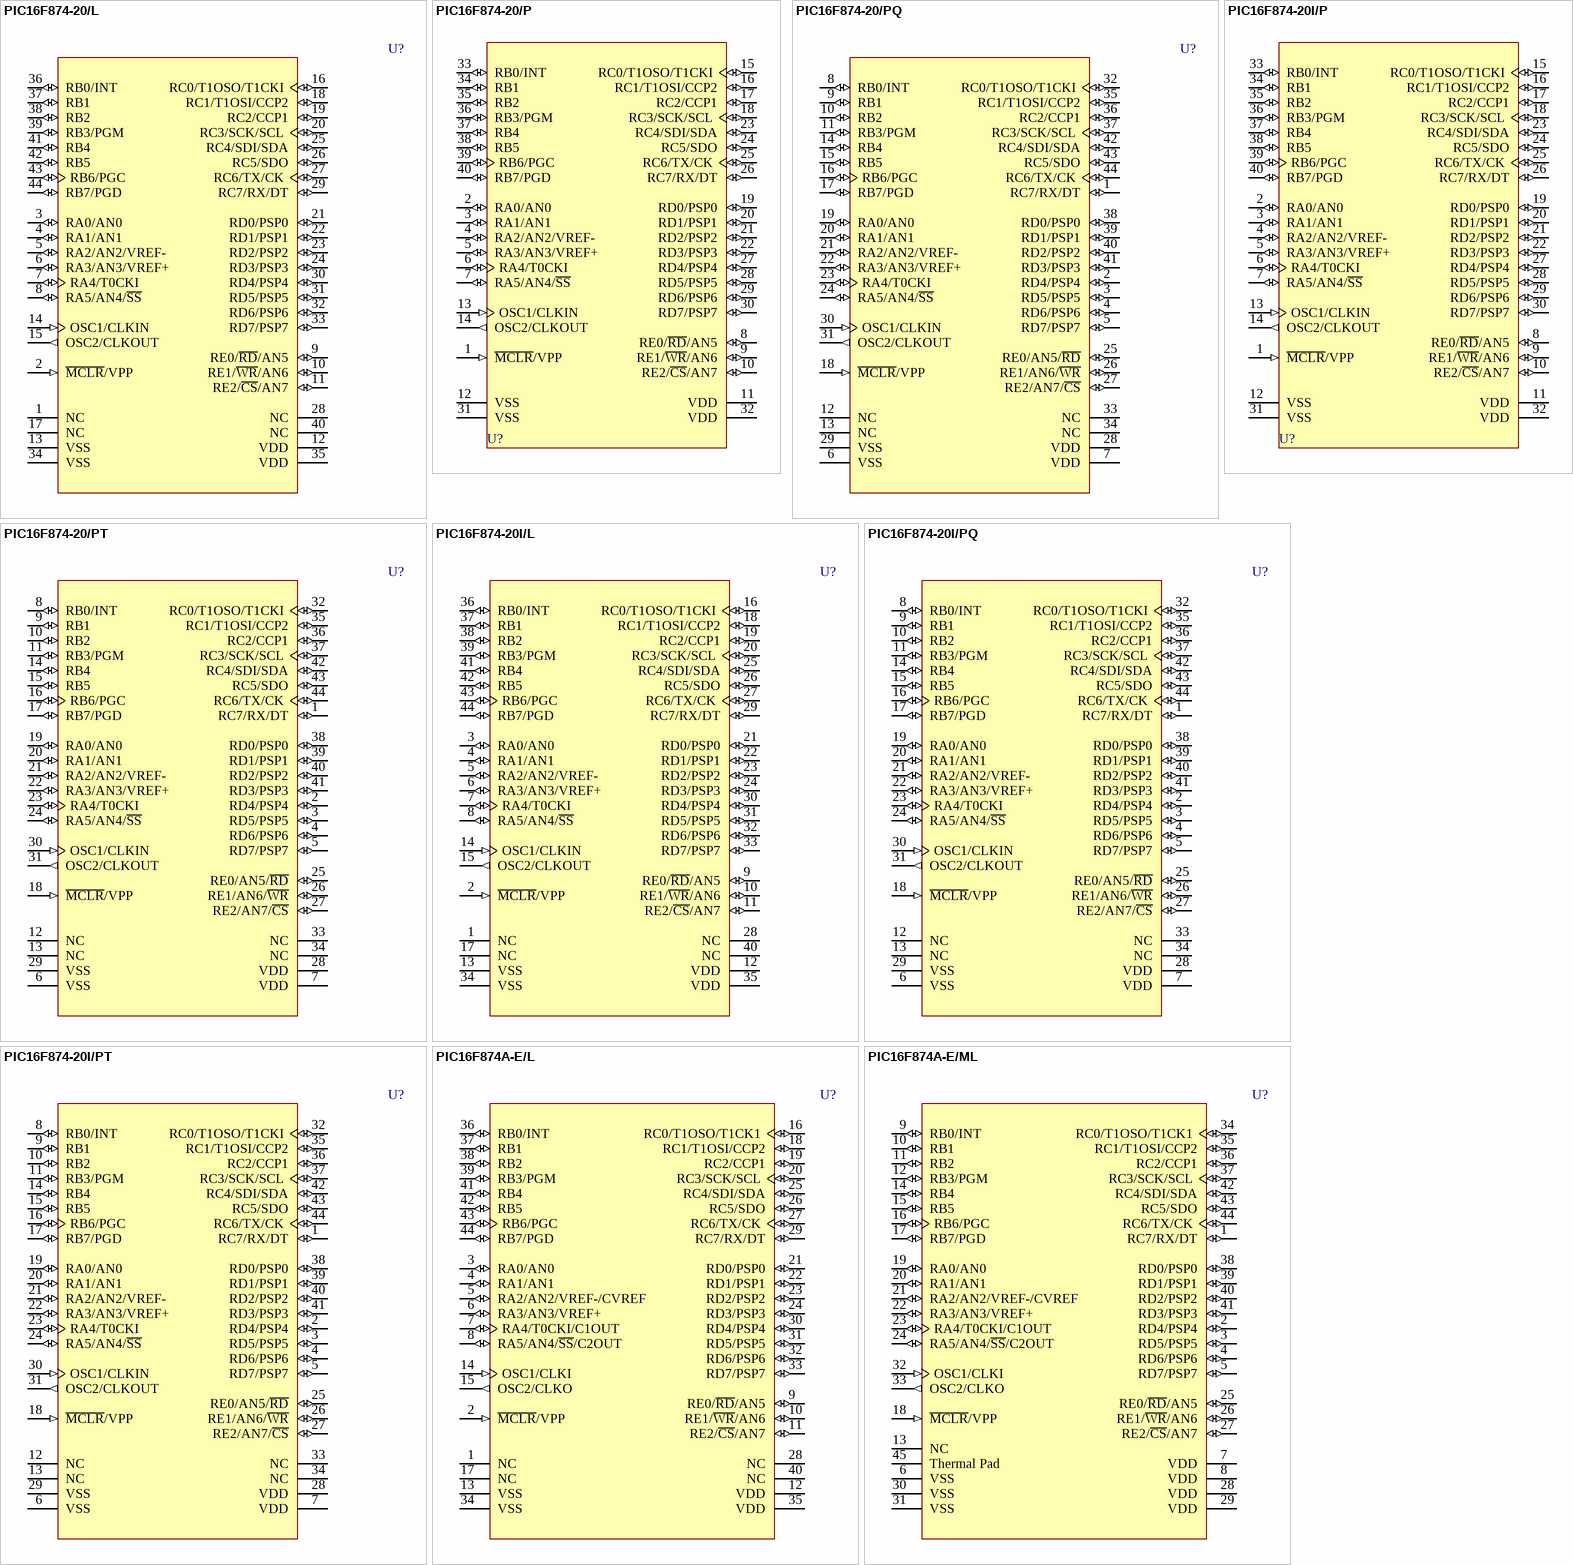
[diagram p24: symbols PIC16F874-20/L to PIC16F874A-E/ML]

## PIC16F874-20/L
designator U?
8-Bit CMOS FLASH Microcontroller, 4K x 14 words FLASH, 192 x 8 Bytes RAM, 20 MHz, 44-Pin PLCC, 4 to 5.5V VDD Range, Commercial Temperature; Note: Not recommended for new designs. Consider PIC16F874A instead.; Published: 11-Oct-2004; LatestRevisionDate: 13-Apr-2006; LatestRevisionNote: IPC-7351 Footprint Added.; DatasheetVersion: DS30292C_2001; PackageVersion: 2003; PackageReference: PLCC-44; Publisher: Altium Limited; PackageDescription: 44-Pin Leaded Chip Carrier 1.27 mm Pitch; Code_JEDEC: MO-047; Code_IPC: PLCC-44; ComponentLink1Description: Manufacturer Link; ComponentLink1URL: http://www.microchip.com; ComponentLink2Description: Datasheet; ComponentLink2URL: http://ww1.microchip.com/downloads/en/DeviceDoc/30292c.pdf; ComponentLink3Description: Packaging Specification; ComponentLink3URL: http://ww1.microchip.com/downloads/en/PackagingSpec/00049AD.pdf
footprint PLCC-44_N (Leaded Chip Carrier, 44-Leads, Body 16.6x16.6mm, Pitch 1.27mm, IPC Medium Density)
footprint PLCC-44_L (Leaded Chip Carrier, 44-Leads, Body 16.6x16.6mm, Pitch 1.27mm, IPC High Density)
footprint PLCC-44_M (Leaded Chip Carrier, 44-Leads, Body 16.6x16.6mm, Pitch 1.27mm, IPC Low Density)
3D model PIC16F874-PLCC-44 (44-Pin Leaded Chip Carrier 1.27 mm Pitch)
pins: 1 NC, 2 ~{MCLR}/VPP (in), 3 RA0/AN0 (io), 4 RA1/AN1 (io), 5 RA2/AN2/VREF- (io), 6 RA3/AN3/VREF+ (io), 7 RA4/T0CKI (io), 8 RA5/AN4/~{SS} (io), 9 RE0/~{RD}/AN5 (io), 10 RE1/~{WR}/AN6 (io), 11 RE2/~{CS}/AN7 (io), 12 VDD (power), 13 VSS (power), 14 OSC1/CLKIN (in), 15 OSC2/CLKOUT (out), 16 RC0/T1OSO/T1CKI (io), 17 NC, 18 RC1/T1OSI/CCP2 (io), 19 RC2/CCP1 (io), 20 RC3/SCK/SCL (io), 21 RD0/PSP0 (io), 22 RD1/PSP1 (io), 23 RD2/PSP2 (io), 24 RD3/PSP3 (io), 25 RC4/SDI/SDA (io), 26 RC5/SDO (io), 27 RC6/TX/CK (io), 28 NC, 29 RC7/RX/DT (io), 30 RD4/PSP4 (io), 31 RD5/PSP5 (io), 32 RD6/PSP6 (io), 33 RD7/PSP7 (io), 34 VSS (power), 35 VDD (power), 36 RB0/INT (io), 37 RB1 (io), 38 RB2 (io), 39 RB3/PGM (io), 40 NC, 41 RB4 (io), 42 RB5 (io), 43 RB6/PGC (io), 44 RB7/PGD (io)

## PIC16F874-20/P
designator U?
8-Bit CMOS FLASH Microcontroller, 4K x 14 words FLASH, 192 x 8 Bytes RAM, 20 MHz, 40-Pin PDIP, 4 to 5.5V VDD Range, Commercial Temperature; Note: Not recommended for new designs. Consider PIC16F874A instead.; Published: 11-Oct-2004; LatestRevisionDate: 04-Mar-2005; LatestRevisionNote: Stylized 3D Model Added.; DatasheetVersion: DS30292C_2001; PackageVersion: 2003; PackageReference: PDIP600-40; Publisher: Altium Limited; PackageDescription: DIP, Plastic; 40 Leads; Row Spacing 15.24 mm; Pitch 2.54 mm; Code_JEDEC: MO-011; ComponentLink1Description: Manufacturer Link; ComponentLink1URL: http://www.microchip.com; ComponentLink2Description: Datasheet; ComponentLink2URL: http://ww1.microchip.com/downloads/en/DeviceDoc/30292c.pdf; ComponentLink3Description: Packaging Specification; ComponentLink3URL: http://ww1.microchip.com/downloads/en/PackagingSpec/00049AD.pdf
footprint PDIP600-40 (DIP, Plastic; 40 Leads; Row Spacing 15.24 mm; Pitch 2.54 mm)
3D model PDIP600-40 (DIP, Plastic; 40 Leads; Row Spacing 15.24 mm; Pitch 2.54 mm)
pins: 1 ~{MCLR}/VPP (in), 2 RA0/AN0 (io), 3 RA1/AN1 (io), 4 RA2/AN2/VREF- (io), 5 RA3/AN3/VREF+ (io), 6 RA4/T0CKI (io), 7 RA5/AN4/~{SS} (io), 8 RE0/~{RD}/AN5 (io), 9 RE1/~{WR}/AN6 (io), 10 RE2/~{CS}/AN7 (io), 11 VDD (power), 12 VSS (power), 13 OSC1/CLKIN (in), 14 OSC2/CLKOUT (out), 15 RC0/T1OSO/T1CKI (io), 16 RC1/T1OSI/CCP2 (io), 17 RC2/CCP1 (io), 18 RC3/SCK/SCL (io), 19 RD0/PSP0 (io), 20 RD1/PSP1 (io), 21 RD2/PSP2 (io), 22 RD3/PSP3 (io), 23 RC4/SDI/SDA (io), 24 RC5/SDO (io), 25 RC6/TX/CK (io), 26 RC7/RX/DT (io), 27 RD4/PSP4 (io), 28 RD5/PSP5 (io), 29 RD6/PSP6 (io), 30 RD7/PSP7 (io), 31 VSS (power), 32 VDD (power), 33 RB0/INT (io), 34 RB1 (io), 35 RB2 (io), 36 RB3/PGM (io), 37 RB4 (io), 38 RB5 (io), 39 RB6/PGC (io), 40 RB7/PGD (io)

## PIC16F874-20/PQ
designator U?
8-Bit CMOS FLASH Microcontroller, 4K x 14 words FLASH, 192 x 8 Bytes RAM, 20 MHz, 44-Pin MQFP, 4 to 5.5V VDD Range, Commercial Temperature; Note: Not recommended for new designs. Consider PIC16F874A instead.; Published: 11-Oct-2004; LatestRevisionDate: 13-Apr-2006; LatestRevisionNote: IPC-7351 Footprint Added.; DatasheetVersion: DS30292C_2001; PackageVersion: 2003; PackageReference: MQFP-44; Publisher: Altium Limited; PackageDescription: 44-Pin Plastic Metric Quad Flat Pack 0.8 mm Pitch, 1.6/0.15 mm Lead Form; Code_JEDEC: MS-022; Code_IPC: QFP80P1320X1320-44; ComponentLink1Description: Manufacturer Link; ComponentLink1URL: http://www.microchip.com; ComponentLink2Description: Datasheet; ComponentLink2URL: http://ww1.microchip.com/downloads/en/DeviceDoc/30292c.pdf; ComponentLink3Description: Packaging Specification; ComponentLink3URL: http://ww1.microchip.com/downloads/en/PackagingSpec/00049AD.pdf
footprint MQFP-44_N (QFP, 44-Leads, Body 10x10mm, Pitch 0.8mm, IPC Medium Density)
footprint MQFP-44_L (QFP, 44-Leads, Body 10x10mm, Pitch 0.8mm, IPC High Density)
footprint MQFP-44_M (QFP, 44-Leads, Body 10x10mm, Pitch 0.8mm, IPC Low Density)
3D model PIC16F874-MQFP-44 (44-Pin Plastic Metric Quad Flat Pack 0.8 mm Pitch, 1.6/0.15 mm Lead Form)
pins: 1 RC7/RX/DT (io), 2 RD4/PSP4 (io), 3 RD5/PSP5 (io), 4 RD6/PSP6 (io), 5 RD7/PSP7 (io), 6 VSS (power), 7 VDD (power), 8 RB0/INT (io), 9 RB1 (io), 10 RB2 (io), 11 RB3/PGM (io), 12 NC, 13 NC, 14 RB4 (io), 15 RB5 (io), 16 RB6/PGC (io), 17 RB7/PGD (io), 18 ~{MCLR}/VPP (in), 19 RA0/AN0 (io), 20 RA1/AN1 (io), 21 RA2/AN2/VREF- (io), 22 RA3/AN3/VREF+ (io), 23 RA4/T0CKI (io), 24 RA5/AN4/~{SS} (io), 25 RE0/AN5/~{RD} (io), 26 RE1/AN6/~{WR} (io), 27 RE2/AN7/~{CS} (io), 28 VDD (power), 29 VSS (power), 30 OSC1/CLKIN (in), 31 OSC2/CLKOUT (out), 32 RC0/T1OSO/T1CKI (io), 33 NC, 34 NC, 35 RC1/T1OSI/CCP2 (io), 36 RC2/CCP1 (io), 37 RC3/SCK/SCL (io), 38 RD0/PSP0 (io), 39 RD1/PSP1 (io), 40 RD2/PSP2 (io), 41 RD3/PSP3 (io), 42 RC4/SDI/SDA (io), 43 RC5/SDO (io), 44 RC6/TX/CK (io)

## PIC16F874-20/PT
designator U?
8-Bit CMOS FLASH Microcontroller, 4K x 14 words FLASH, 192 x 8 Bytes RAM, 20 MHz, 44-Pin TQFP, 4 to 5.5V VDD Range, Commercial Temperature; Note: Not recommended for new designs. Consider PIC16F874A instead.; Published: 11-Oct-2004; LatestRevisionDate: 13-Apr-2006; LatestRevisionNote: IPC-7351 Footprint Added.; DatasheetVersion: DS30292C_2001; PackageVersion: 2003; PackageReference: TQFP-44; Publisher: Altium Limited; PackageDescription: 44-Pin Thin Quad Flat Pack 0.8 mm Pitch, 1.0/0.1 mm Lead Form; Code_JEDEC: MS-026; ComponentLink1Description: Manufacturer Link; ComponentLink1URL: http://www.microchip.com; ComponentLink2Description: Datasheet; ComponentLink2URL: http://ww1.microchip.com/downloads/en/DeviceDoc/30292c.pdf; ComponentLink3Description: Packaging Specification; ComponentLink3URL: http://ww1.microchip.com/downloads/en/PackagingSpec/00049AD.pdf
footprint TQFP-44_N (Thin QFP, 44-Leads, Body 10x10mm, Pitch 0.8mm, IPC Medium Density)
footprint TQFP-44_L (Thin QFP, 44-Leads, Body 10x10mm, Pitch 0.8mm, IPC High Density)
footprint TQFP-44_M (Thin QFP, 44-Leads, Body 10x10mm, Pitch 0.8mm, IPC Low Density)
3D model PIC16F874-TQFP-44 (44-Pin Thin Quad Flat Pack 0.8 mm Pitch, 1.0/0.1 mm Lead Form)
pins: 1 RC7/RX/DT (io), 2 RD4/PSP4 (io), 3 RD5/PSP5 (io), 4 RD6/PSP6 (io), 5 RD7/PSP7 (io), 6 VSS (power), 7 VDD (power), 8 RB0/INT (io), 9 RB1 (io), 10 RB2 (io), 11 RB3/PGM (io), 12 NC, 13 NC, 14 RB4 (io), 15 RB5 (io), 16 RB6/PGC (io), 17 RB7/PGD (io), 18 ~{MCLR}/VPP (in), 19 RA0/AN0 (io), 20 RA1/AN1 (io), 21 RA2/AN2/VREF- (io), 22 RA3/AN3/VREF+ (io), 23 RA4/T0CKI (io), 24 RA5/AN4/~{SS} (io), 25 RE0/AN5/~{RD} (io), 26 RE1/AN6/~{WR} (io), 27 RE2/AN7/~{CS} (io), 28 VDD (power), 29 VSS (power), 30 OSC1/CLKIN (in), 31 OSC2/CLKOUT (out), 32 RC0/T1OSO/T1CKI (io), 33 NC, 34 NC, 35 RC1/T1OSI/CCP2 (io), 36 RC2/CCP1 (io), 37 RC3/SCK/SCL (io), 38 RD0/PSP0 (io), 39 RD1/PSP1 (io), 40 RD2/PSP2 (io), 41 RD3/PSP3 (io), 42 RC4/SDI/SDA (io), 43 RC5/SDO (io), 44 RC6/TX/CK (io)

## PIC16F874-20I/L
designator U?
8-Bit CMOS FLASH Microcontroller, 4K x 14 words FLASH, 192 x 8 Bytes RAM, 20 MHz, 44-Pin PLCC, 4 to 5.5V VDD Range, Industrial Temperature; Note: Not recommended for new designs. Consider PIC16F874A instead.; Published: 11-Oct-2004; LatestRevisionDate: 13-Apr-2006; LatestRevisionNote: IPC-7351 Footprint Added.; DatasheetVersion: DS30292C_2001; PackageVersion: 2003; PackageReference: PLCC-44; Publisher: Altium Limited; PackageDescription: 44-Pin Leaded Chip Carrier 1.27 mm Pitch; Code_JEDEC: MO-047; Code_IPC: PLCC-44; ComponentLink1Description: Manufacturer Link; ComponentLink1URL: http://www.microchip.com; ComponentLink2Description: Datasheet; ComponentLink2URL: http://ww1.microchip.com/downloads/en/DeviceDoc/30292c.pdf; ComponentLink3Description: Packaging Specification; ComponentLink3URL: http://ww1.microchip.com/downloads/en/PackagingSpec/00049AD.pdf
footprint PLCC-44_N (Leaded Chip Carrier, 44-Leads, Body 16.6x16.6mm, Pitch 1.27mm, IPC Medium Density)
footprint PLCC-44_L (Leaded Chip Carrier, 44-Leads, Body 16.6x16.6mm, Pitch 1.27mm, IPC High Density)
footprint PLCC-44_M (Leaded Chip Carrier, 44-Leads, Body 16.6x16.6mm, Pitch 1.27mm, IPC Low Density)
3D model PIC16F874-PLCC-44 (44-Pin Leaded Chip Carrier 1.27 mm Pitch)
pins: 1 NC, 2 ~{MCLR}/VPP (in), 3 RA0/AN0 (io), 4 RA1/AN1 (io), 5 RA2/AN2/VREF- (io), 6 RA3/AN3/VREF+ (io), 7 RA4/T0CKI (io), 8 RA5/AN4/~{SS} (io), 9 RE0/~{RD}/AN5 (io), 10 RE1/~{WR}/AN6 (io), 11 RE2/~{CS}/AN7 (io), 12 VDD (power), 13 VSS (power), 14 OSC1/CLKIN (in), 15 OSC2/CLKOUT (out), 16 RC0/T1OSO/T1CKI (io), 17 NC, 18 RC1/T1OSI/CCP2 (io), 19 RC2/CCP1 (io), 20 RC3/SCK/SCL (io), 21 RD0/PSP0 (io), 22 RD1/PSP1 (io), 23 RD2/PSP2 (io), 24 RD3/PSP3 (io), 25 RC4/SDI/SDA (io), 26 RC5/SDO (io), 27 RC6/TX/CK (io), 28 NC, 29 RC7/RX/DT (io), 30 RD4/PSP4 (io), 31 RD5/PSP5 (io), 32 RD6/PSP6 (io), 33 RD7/PSP7 (io), 34 VSS (power), 35 VDD (power), 36 RB0/INT (io), 37 RB1 (io), 38 RB2 (io), 39 RB3/PGM (io), 40 NC, 41 RB4 (io), 42 RB5 (io), 43 RB6/PGC (io), 44 RB7/PGD (io)

## PIC16F874-20I/P
designator U?
8-Bit CMOS FLASH Microcontroller, 4K x 14 words FLASH, 192 x 8 Bytes RAM, 20 MHz, 40-Pin PDIP, 4 to 5.5V VDD Range, Industrial Temperature; Note: Not recommended for new designs. Consider PIC16F874A instead.; Published: 11-Oct-2004; LatestRevisionDate: 04-Mar-2005; LatestRevisionNote: Stylized 3D Model Added.; DatasheetVersion: DS30292C_2001; PackageVersion: 2003; PackageReference: PDIP600-40; Publisher: Altium Limited; PackageDescription: DIP, Plastic; 40 Leads; Row Spacing 15.24 mm; Pitch 2.54 mm; Code_JEDEC: MO-011; ComponentLink1Description: Manufacturer Link; ComponentLink1URL: http://www.microchip.com; ComponentLink2Description: Datasheet; ComponentLink2URL: http://ww1.microchip.com/downloads/en/DeviceDoc/30292c.pdf; ComponentLink3Description: Packaging Specification; ComponentLink3URL: http://ww1.microchip.com/downloads/en/PackagingSpec/00049AD.pdf
footprint PDIP600-40 (DIP, Plastic; 40 Leads; Row Spacing 15.24 mm; Pitch 2.54 mm)
3D model PDIP600-40 (DIP, Plastic; 40 Leads; Row Spacing 15.24 mm; Pitch 2.54 mm)
pins: 1 ~{MCLR}/VPP (in), 2 RA0/AN0 (io), 3 RA1/AN1 (io), 4 RA2/AN2/VREF- (io), 5 RA3/AN3/VREF+ (io), 6 RA4/T0CKI (io), 7 RA5/AN4/~{SS} (io), 8 RE0/~{RD}/AN5 (io), 9 RE1/~{WR}/AN6 (io), 10 RE2/~{CS}/AN7 (io), 11 VDD (power), 12 VSS (power), 13 OSC1/CLKIN (in), 14 OSC2/CLKOUT (out), 15 RC0/T1OSO/T1CKI (io), 16 RC1/T1OSI/CCP2 (io), 17 RC2/CCP1 (io), 18 RC3/SCK/SCL (io), 19 RD0/PSP0 (io), 20 RD1/PSP1 (io), 21 RD2/PSP2 (io), 22 RD3/PSP3 (io), 23 RC4/SDI/SDA (io), 24 RC5/SDO (io), 25 RC6/TX/CK (io), 26 RC7/RX/DT (io), 27 RD4/PSP4 (io), 28 RD5/PSP5 (io), 29 RD6/PSP6 (io), 30 RD7/PSP7 (io), 31 VSS (power), 32 VDD (power), 33 RB0/INT (io), 34 RB1 (io), 35 RB2 (io), 36 RB3/PGM (io), 37 RB4 (io), 38 RB5 (io), 39 RB6/PGC (io), 40 RB7/PGD (io)

## PIC16F874-20I/PQ
designator U?
8-Bit CMOS FLASH Microcontroller, 4K x 14 words FLASH, 192 x 8 Bytes RAM, 20 MHz, 44-Pin MQFP, 4 to 5.5V VDD Range, Industrial Temperature; Note: Not recommended for new designs. Consider PIC16F874A instead.; Published: 11-Oct-2004; LatestRevisionDate: 13-Apr-2006; LatestRevisionNote: IPC-7351 Footprint Added.; DatasheetVersion: DS30292C_2001; PackageVersion: 2003; PackageReference: MQFP-44; Publisher: Altium Limited; PackageDescription: 44-Pin Plastic Metric Quad Flat Pack 0.8 mm Pitch, 1.6/0.15 mm Lead Form; Code_JEDEC: MS-022; Code_IPC: QFP80P1320X1320-44; ComponentLink1Description: Manufacturer Link; ComponentLink1URL: http://www.microchip.com; ComponentLink2Description: Datasheet; ComponentLink2URL: http://ww1.microchip.com/downloads/en/DeviceDoc/30292c.pdf; ComponentLink3Description: Packaging Specification; ComponentLink3URL: http://ww1.microchip.com/downloads/en/PackagingSpec/00049AD.pdf
footprint MQFP-44_N (QFP, 44-Leads, Body 10x10mm, Pitch 0.8mm, IPC Medium Density)
footprint MQFP-44_L (QFP, 44-Leads, Body 10x10mm, Pitch 0.8mm, IPC High Density)
footprint MQFP-44_M (QFP, 44-Leads, Body 10x10mm, Pitch 0.8mm, IPC Low Density)
3D model PIC16F874-MQFP-44 (44-Pin Plastic Metric Quad Flat Pack 0.8 mm Pitch, 1.6/0.15 mm Lead Form)
pins: 1 RC7/RX/DT (io), 2 RD4/PSP4 (io), 3 RD5/PSP5 (io), 4 RD6/PSP6 (io), 5 RD7/PSP7 (io), 6 VSS (power), 7 VDD (power), 8 RB0/INT (io), 9 RB1 (io), 10 RB2 (io), 11 RB3/PGM (io), 12 NC, 13 NC, 14 RB4 (io), 15 RB5 (io), 16 RB6/PGC (io), 17 RB7/PGD (io), 18 ~{MCLR}/VPP (in), 19 RA0/AN0 (io), 20 RA1/AN1 (io), 21 RA2/AN2/VREF- (io), 22 RA3/AN3/VREF+ (io), 23 RA4/T0CKI (io), 24 RA5/AN4/~{SS} (io), 25 RE0/AN5/~{RD} (io), 26 RE1/AN6/~{WR} (io), 27 RE2/AN7/~{CS} (io), 28 VDD (power), 29 VSS (power), 30 OSC1/CLKIN (in), 31 OSC2/CLKOUT (out), 32 RC0/T1OSO/T1CKI (io), 33 NC, 34 NC, 35 RC1/T1OSI/CCP2 (io), 36 RC2/CCP1 (io), 37 RC3/SCK/SCL (io), 38 RD0/PSP0 (io), 39 RD1/PSP1 (io), 40 RD2/PSP2 (io), 41 RD3/PSP3 (io), 42 RC4/SDI/SDA (io), 43 RC5/SDO (io), 44 RC6/TX/CK (io)

## PIC16F874-20I/PT
designator U?
8-Bit CMOS FLASH Microcontroller, 4K x 14 words FLASH, 192 x 8 Bytes RAM, 20 MHz, 44-Pin TQFP, 4 to 5.5V VDD Range, Industrial Temperature; Note: Not recommended for new designs. Consider PIC16F874A instead.; Published: 11-Oct-2004; LatestRevisionDate: 13-Apr-2006; LatestRevisionNote: IPC-7351 Footprint Added.; DatasheetVersion: DS30292C_2001; PackageVersion: 2003; PackageReference: TQFP-44; Publisher: Altium Limited; PackageDescription: 44-Pin Thin Quad Flat Pack 0.8 mm Pitch, 1.0/0.1 mm Lead Form; Code_JEDEC: MS-026; ComponentLink1Description: Manufacturer Link; ComponentLink1URL: http://www.microchip.com; ComponentLink2Description: Datasheet; ComponentLink2URL: http://ww1.microchip.com/downloads/en/DeviceDoc/30292c.pdf; ComponentLink3Description: Packaging Specification; ComponentLink3URL: http://ww1.microchip.com/downloads/en/PackagingSpec/00049AD.pdf
footprint TQFP-44_N (Thin QFP, 44-Leads, Body 10x10mm, Pitch 0.8mm, IPC Medium Density)
footprint TQFP-44_L (Thin QFP, 44-Leads, Body 10x10mm, Pitch 0.8mm, IPC High Density)
footprint TQFP-44_M (Thin QFP, 44-Leads, Body 10x10mm, Pitch 0.8mm, IPC Low Density)
3D model PIC16F874-TQFP-44 (44-Pin Thin Quad Flat Pack 0.8 mm Pitch, 1.0/0.1 mm Lead Form)
pins: 1 RC7/RX/DT (io), 2 RD4/PSP4 (io), 3 RD5/PSP5 (io), 4 RD6/PSP6 (io), 5 RD7/PSP7 (io), 6 VSS (power), 7 VDD (power), 8 RB0/INT (io), 9 RB1 (io), 10 RB2 (io), 11 RB3/PGM (io), 12 NC, 13 NC, 14 RB4 (io), 15 RB5 (io), 16 RB6/PGC (io), 17 RB7/PGD (io), 18 ~{MCLR}/VPP (in), 19 RA0/AN0 (io), 20 RA1/AN1 (io), 21 RA2/AN2/VREF- (io), 22 RA3/AN3/VREF+ (io), 23 RA4/T0CKI (io), 24 RA5/AN4/~{SS} (io), 25 RE0/AN5/~{RD} (io), 26 RE1/AN6/~{WR} (io), 27 RE2/AN7/~{CS} (io), 28 VDD (power), 29 VSS (power), 30 OSC1/CLKIN (in), 31 OSC2/CLKOUT (out), 32 RC0/T1OSO/T1CKI (io), 33 NC, 34 NC, 35 RC1/T1OSI/CCP2 (io), 36 RC2/CCP1 (io), 37 RC3/SCK/SCL (io), 38 RD0/PSP0 (io), 39 RD1/PSP1 (io), 40 RD2/PSP2 (io), 41 RD3/PSP3 (io), 42 RC4/SDI/SDA (io), 43 RC5/SDO (io), 44 RC6/TX/CK (io)

## PIC16F874A-E/L
designator U?
Enhanced FLASH Microcontroller, 4K (x14-Bit words) FLASH, 192 Bytes RAM, 44-Pin PLCC, Standard VDD Range, Extended Temperature; Note: 25mA sink/source per I/O.; Published: 11-Oct-2004; LatestRevisionDate: 13-Apr-2006; LatestRevisionNote: IPC-7351 Footprint Added.; DatasheetVersion: DS39582B_2003; PackageVersion: 2003; PackageReference: PLCC-44; Publisher: Altium Limited; PackageDescription: 44-Pin Leaded Chip Carrier 1.27 mm Pitch; Code_JEDEC: MO-047; Code_IPC: PLCC-44; ComponentLink1Description: Manufacturer Link; ComponentLink1URL: http://www.microchip.com; ComponentLink2Description: Datasheet; ComponentLink2URL: http://ww1.microchip.com/downloads/en/DeviceDoc/39582b.pdf; ComponentLink3Description: Packaging Specification; ComponentLink3URL: http://ww1.microchip.com/downloads/en/PackagingSpec/00049AD.pdf
footprint PLCC-44_N (Leaded Chip Carrier, 44-Leads, Body 16.6x16.6mm, Pitch 1.27mm, IPC Medium Density)
footprint PLCC-44_L (Leaded Chip Carrier, 44-Leads, Body 16.6x16.6mm, Pitch 1.27mm, IPC High Density)
footprint PLCC-44_M (Leaded Chip Carrier, 44-Leads, Body 16.6x16.6mm, Pitch 1.27mm, IPC Low Density)
3D model PIC16F874A-PLCC-44 (44-Pin Leaded Chip Carrier 1.27 mm Pitch)
pins: 1 NC, 2 ~{MCLR}/VPP (in), 3 RA0/AN0 (io), 4 RA1/AN1 (io), 5 RA2/AN2/VREF-/CVREF (io), 6 RA3/AN3/VREF+ (io), 7 RA4/T0CKI/C1OUT (io), 8 RA5/AN4/~{SS}/C2OUT (io), 9 RE0/~{RD}/AN5 (io), 10 RE1/~{WR}/AN6 (io), 11 RE2/~{CS}/AN7 (io), 12 VDD (power), 13 VSS (power), 14 OSC1/CLKI (in), 15 OSC2/CLKO (out), 16 RC0/T1OSO/T1CK1 (io), 17 NC, 18 RC1/T1OSI/CCP2 (io), 19 RC2/CCP1 (io), 20 RC3/SCK/SCL (io), 21 RD0/PSP0 (io), 22 RD1/PSP1 (io), 23 RD2/PSP2 (io), 24 RD3/PSP3 (io), 25 RC4/SDI/SDA (io), 26 RC5/SDO (io), 27 RC6/TX/CK (io), 28 NC, 29 RC7/RX/DT (io), 30 RD4/PSP4 (io), 31 RD5/PSP5 (io), 32 RD6/PSP6 (io), 33 RD7/PSP7 (io), 34 VSS (power), 35 VDD (power), 36 RB0/INT (io), 37 RB1 (io), 38 RB2 (io), 39 RB3/PGM (io), 40 NC, 41 RB4 (io), 42 RB5 (io), 43 RB6/PGC (io), 44 RB7/PGD (io)

## PIC16F874A-E/ML
designator U?
Enhanced FLASH Microcontroller, 4K (x14-Bit words) FLASH, 192 Bytes RAM, 44-Pin QFN, Standard VDD Range, Extended Temperature; Note: 25mA sink/source per I/O.; Published: 11-Oct-2004; LatestRevisionDate: 13-Apr-2006; LatestRevisionNote: IPC-7351 Footprint Added.; DatasheetVersion: DS39582B_2003; PackageVersion: 2003; PackageReference: QFN-44; Publisher: Altium Limited; PackageDescription: 44-Pin Plastic Quad Flat No-Lead 0.65 mm Pitch; Code_JEDEC: MO-220; Code_IPC: QFN65P800X800-44V2; ComponentLink1Description: Manufacturer Link; ComponentLink1URL: http://www.microchip.com; ComponentLink2Description: Datasheet; ComponentLink2URL: http://ww1.microchip.com/downloads/en/DeviceDoc/39582b.pdf; ComponentLink3Description: Packaging Specification; ComponentLink3URL: http://ww1.microchip.com/downloads/en/PackagingSpec/00049AD.pdf
footprint QFN-44_N (QFN, 44-Leads, Body 8x8 mm, Pitch 0.65mm, IPC Medium Density)
footprint QFN-44_L (QFN, 44-Leads, Body 8x8 mm, Pitch 0.65mm, IPC High Density)
footprint QFN-44_M (QFN, 44-Leads, Body 8x8 mm, Pitch 0.65mm, IPC Low Density)
pins: 1 RC7/RX/DT (io), 2 RD4/PSP4 (io), 3 RD5/PSP5 (io), 4 RD6/PSP6 (io), 5 RD7/PSP7 (io), 6 VSS (power), 7 VDD (power), 8 VDD (power), 9 RB0/INT (io), 10 RB1 (io), 11 RB2 (io), 12 RB3/PGM (io), 13 NC, 14 RB4 (io), 15 RB5 (io), 16 RB6/PGC (io), 17 RB7/PGD (io), 18 ~{MCLR}/VPP (in), 19 RA0/AN0 (io), 20 RA1/AN1 (io), 21 RA2/AN2/VREF-/CVREF (io), 22 RA3/AN3/VREF+ (io), 23 RA4/T0CKI/C1OUT (io), 24 RA5/AN4/~{SS}/C2OUT (io), 25 RE0/~{RD}/AN5 (io), 26 RE1/~{WR}/AN6 (io), 27 RE2/~{CS}/AN7 (io), 28 VDD (power), 29 VDD (power), 30 VSS (power), 31 VSS (power), 32 OSC1/CLKI (in), 33 OSC2/CLKO (out), 34 RC0/T1OSO/T1CK1 (io), 35 RC1/T1OSI/CCP2 (io), 36 RC2/CCP1 (io), 37 RC3/SCK/SCL (io), 38 RD0/PSP0 (io), 39 RD1/PSP1 (io), 40 RD2/PSP2 (io), 41 RD3/PSP3 (io), 42 RC4/SDI/SDA (io), 43 RC5/SDO (io), 44 RC6/TX/CK (io), 45 Thermal Pad (power)

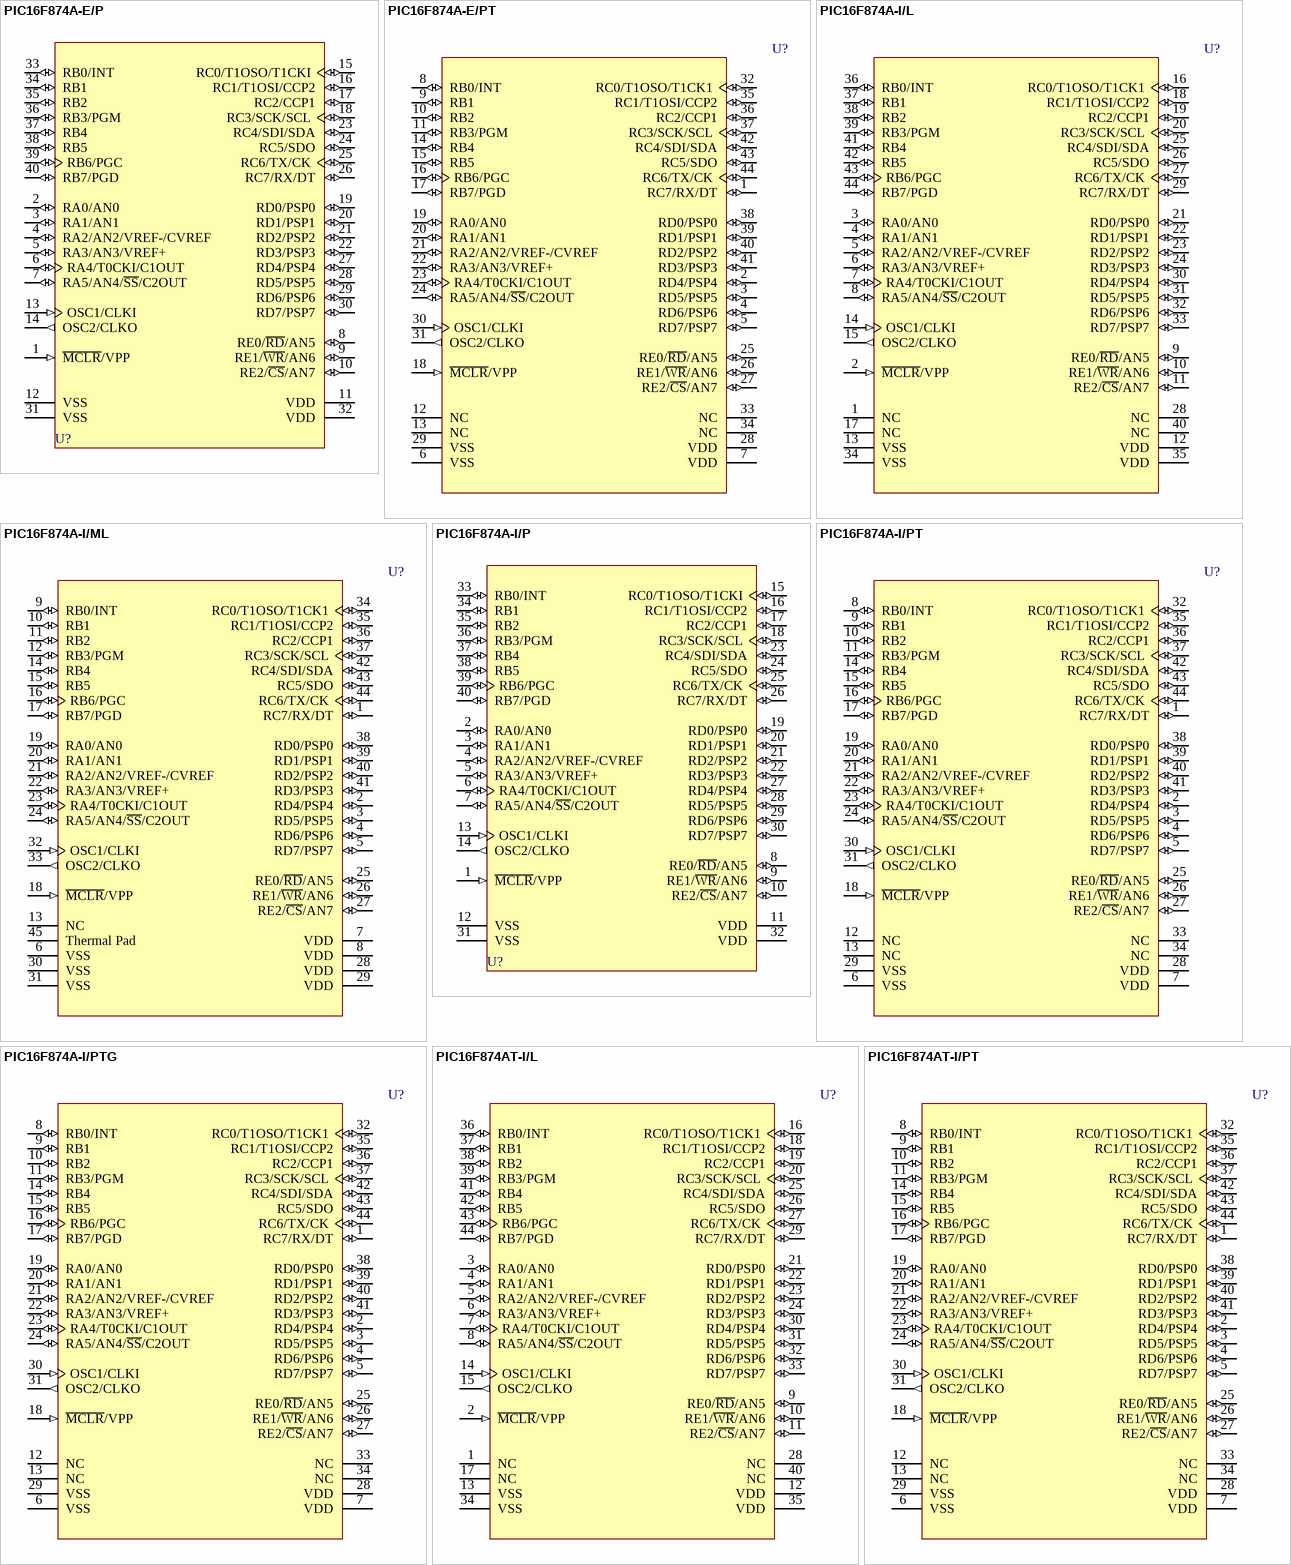
[diagram p25: symbols PIC16F874A-E/P to PIC16F874AT-I/PT]

## PIC16F874A-E/P
designator U?
Enhanced FLASH Microcontroller, 4K (x14-Bit words) FLASH, 192 Bytes RAM, 40-Pin PDIP, Standard VDD Range, Extended Temperature; Note: 25mA sink/source per I/O.; Published: 11-Oct-2004; LatestRevisionDate: 04-Mar-2005; LatestRevisionNote: Stylized 3D Model Added.; DatasheetVersion: DS39582B_2003; PackageVersion: 2003; PackageReference: PDIP600-40; Publisher: Altium Limited; PackageDescription: DIP, Plastic; 40 Leads; Row Spacing 15.24 mm; Pitch 2.54 mm; Code_JEDEC: MO-011; ComponentLink1Description: Manufacturer Link; ComponentLink1URL: http://www.microchip.com; ComponentLink2Description: Datasheet; ComponentLink2URL: http://ww1.microchip.com/downloads/en/DeviceDoc/39582b.pdf; ComponentLink3Description: Packaging Specification; ComponentLink3URL: http://ww1.microchip.com/downloads/en/PackagingSpec/00049AD.pdf
footprint PDIP600-40 (DIP, Plastic; 40 Leads; Row Spacing 15.24 mm; Pitch 2.54 mm)
3D model PDIP600-40 (DIP, Plastic; 40 Leads; Row Spacing 15.24 mm; Pitch 2.54 mm)
pins: 1 ~{MCLR}/VPP (in), 2 RA0/AN0 (io), 3 RA1/AN1 (io), 4 RA2/AN2/VREF-/CVREF (io), 5 RA3/AN3/VREF+ (io), 6 RA4/T0CKI/C1OUT (io), 7 RA5/AN4/~{SS}/C2OUT (io), 8 RE0/~{RD}/AN5 (io), 9 RE1/~{WR}/AN6 (io), 10 RE2/~{CS}/AN7 (io), 11 VDD (power), 12 VSS (power), 13 OSC1/CLKI (in), 14 OSC2/CLKO (out), 15 RC0/T1OSO/T1CKI (io), 16 RC1/T1OSI/CCP2 (io), 17 RC2/CCP1 (io), 18 RC3/SCK/SCL (io), 19 RD0/PSP0 (io), 20 RD1/PSP1 (io), 21 RD2/PSP2 (io), 22 RD3/PSP3 (io), 23 RC4/SDI/SDA (io), 24 RC5/SDO (io), 25 RC6/TX/CK (io), 26 RC7/RX/DT (io), 27 RD4/PSP4 (io), 28 RD5/PSP5 (io), 29 RD6/PSP6 (io), 30 RD7/PSP7 (io), 31 VSS (power), 32 VDD (power), 33 RB0/INT (io), 34 RB1 (io), 35 RB2 (io), 36 RB3/PGM (io), 37 RB4 (io), 38 RB5 (io), 39 RB6/PGC (io), 40 RB7/PGD (io)

## PIC16F874A-E/PT
designator U?
Enhanced FLASH Microcontroller, 4K (x14-Bit words) FLASH, 192 Bytes RAM, 44-Pin TQFP, Standard VDD Range, Extended Temperature; Note: 25mA sink/source per I/O.; Published: 11-Oct-2004; LatestRevisionDate: 13-Apr-2006; LatestRevisionNote: IPC-7351 Footprint Added.; DatasheetVersion: DS39582B_2003; PackageVersion: 2003; PackageReference: TQFP-44; Publisher: Altium Limited; PackageDescription: 44-Pin Thin Quad Flat Pack 0.8 mm Pitch, 1.0/0.1 mm Lead Form; Code_JEDEC: MS-026; ComponentLink1Description: Manufacturer Link; ComponentLink1URL: http://www.microchip.com; ComponentLink2Description: Datasheet; ComponentLink2URL: http://ww1.microchip.com/downloads/en/DeviceDoc/39582b.pdf; ComponentLink3Description: Packaging Specification; ComponentLink3URL: http://ww1.microchip.com/downloads/en/PackagingSpec/00049AD.pdf
footprint TQFP-44_N (Thin QFP, 44-Leads, Body 10x10mm, Pitch 0.8mm, IPC Medium Density)
footprint TQFP-44_L (Thin QFP, 44-Leads, Body 10x10mm, Pitch 0.8mm, IPC High Density)
footprint TQFP-44_M (Thin QFP, 44-Leads, Body 10x10mm, Pitch 0.8mm, IPC Low Density)
3D model PIC16F874A-TQFP-44 (44-Pin Thin Quad Flat Pack 0.8 mm Pitch, 1.0/0.1 mm Lead Form)
pins: 1 RC7/RX/DT (io), 2 RD4/PSP4 (io), 3 RD5/PSP5 (io), 4 RD6/PSP6 (io), 5 RD7/PSP7 (io), 6 VSS (power), 7 VDD (power), 8 RB0/INT (io), 9 RB1 (io), 10 RB2 (io), 11 RB3/PGM (io), 12 NC, 13 NC, 14 RB4 (io), 15 RB5 (io), 16 RB6/PGC (io), 17 RB7/PGD (io), 18 ~{MCLR}/VPP (in), 19 RA0/AN0 (io), 20 RA1/AN1 (io), 21 RA2/AN2/VREF-/CVREF (io), 22 RA3/AN3/VREF+ (io), 23 RA4/T0CKI/C1OUT (io), 24 RA5/AN4/~{SS}/C2OUT (io), 25 RE0/~{RD}/AN5 (io), 26 RE1/~{WR}/AN6 (io), 27 RE2/~{CS}/AN7 (io), 28 VDD (power), 29 VSS (power), 30 OSC1/CLKI (in), 31 OSC2/CLKO (out), 32 RC0/T1OSO/T1CK1 (io), 33 NC, 34 NC, 35 RC1/T1OSI/CCP2 (io), 36 RC2/CCP1 (io), 37 RC3/SCK/SCL (io), 38 RD0/PSP0 (io), 39 RD1/PSP1 (io), 40 RD2/PSP2 (io), 41 RD3/PSP3 (io), 42 RC4/SDI/SDA (io), 43 RC5/SDO (io), 44 RC6/TX/CK (io)

## PIC16F874A-I/L
designator U?
Enhanced FLASH Microcontroller, 4K (x14-Bit words) FLASH, 192 Bytes RAM, 44-Pin PLCC, Standard VDD Range, Industrial Temperature; Note: 25mA sink/source per I/O.; Published: 11-Oct-2004; LatestRevisionDate: 13-Apr-2006; LatestRevisionNote: IPC-7351 Footprint Added.; DatasheetVersion: DS39582B_2003; PackageVersion: 2003; PackageReference: PLCC-44; Publisher: Altium Limited; PackageDescription: 44-Pin Leaded Chip Carrier 1.27 mm Pitch; Code_JEDEC: MO-047; Code_IPC: PLCC-44; ComponentLink1Description: Manufacturer Link; ComponentLink1URL: http://www.microchip.com; ComponentLink2Description: Datasheet; ComponentLink2URL: http://ww1.microchip.com/downloads/en/DeviceDoc/39582b.pdf; ComponentLink3Description: Packaging Specification; ComponentLink3URL: http://ww1.microchip.com/downloads/en/PackagingSpec/00049AD.pdf
footprint PLCC-44_N (Leaded Chip Carrier, 44-Leads, Body 16.6x16.6mm, Pitch 1.27mm, IPC Medium Density)
footprint PLCC-44_L (Leaded Chip Carrier, 44-Leads, Body 16.6x16.6mm, Pitch 1.27mm, IPC High Density)
footprint PLCC-44_M (Leaded Chip Carrier, 44-Leads, Body 16.6x16.6mm, Pitch 1.27mm, IPC Low Density)
3D model PIC16F874A-PLCC-44 (44-Pin Leaded Chip Carrier 1.27 mm Pitch)
pins: 1 NC, 2 ~{MCLR}/VPP (in), 3 RA0/AN0 (io), 4 RA1/AN1 (io), 5 RA2/AN2/VREF-/CVREF (io), 6 RA3/AN3/VREF+ (io), 7 RA4/T0CKI/C1OUT (io), 8 RA5/AN4/~{SS}/C2OUT (io), 9 RE0/~{RD}/AN5 (io), 10 RE1/~{WR}/AN6 (io), 11 RE2/~{CS}/AN7 (io), 12 VDD (power), 13 VSS (power), 14 OSC1/CLKI (in), 15 OSC2/CLKO (out), 16 RC0/T1OSO/T1CK1 (io), 17 NC, 18 RC1/T1OSI/CCP2 (io), 19 RC2/CCP1 (io), 20 RC3/SCK/SCL (io), 21 RD0/PSP0 (io), 22 RD1/PSP1 (io), 23 RD2/PSP2 (io), 24 RD3/PSP3 (io), 25 RC4/SDI/SDA (io), 26 RC5/SDO (io), 27 RC6/TX/CK (io), 28 NC, 29 RC7/RX/DT (io), 30 RD4/PSP4 (io), 31 RD5/PSP5 (io), 32 RD6/PSP6 (io), 33 RD7/PSP7 (io), 34 VSS (power), 35 VDD (power), 36 RB0/INT (io), 37 RB1 (io), 38 RB2 (io), 39 RB3/PGM (io), 40 NC, 41 RB4 (io), 42 RB5 (io), 43 RB6/PGC (io), 44 RB7/PGD (io)

## PIC16F874A-I/ML
designator U?
Enhanced FLASH Microcontroller, 4K (x14-Bit words) FLASH, 192 Bytes RAM, 44-Pin QFN, Standard VDD Range, Industrial Temperature; Note: 25mA sink/source per I/O.; Published: 11-Oct-2004; LatestRevisionDate: 13-Apr-2006; LatestRevisionNote: IPC-7351 Footprint Added.; DatasheetVersion: DS39582B_2003; PackageVersion: 2003; PackageReference: QFN-44; Publisher: Altium Limited; PackageDescription: 44-Pin Plastic Quad Flat No-Lead 0.65 mm Pitch; Code_JEDEC: MO-220; Code_IPC: QFN65P800X800-44V2; ComponentLink1Description: Manufacturer Link; ComponentLink1URL: http://www.microchip.com; ComponentLink2Description: Datasheet; ComponentLink2URL: http://ww1.microchip.com/downloads/en/DeviceDoc/39582b.pdf; ComponentLink3Description: Packaging Specification; ComponentLink3URL: http://ww1.microchip.com/downloads/en/PackagingSpec/00049AD.pdf
footprint QFN-44_N (QFN, 44-Leads, Body 8x8 mm, Pitch 0.65mm, IPC Medium Density)
footprint QFN-44_L (QFN, 44-Leads, Body 8x8 mm, Pitch 0.65mm, IPC High Density)
footprint QFN-44_M (QFN, 44-Leads, Body 8x8 mm, Pitch 0.65mm, IPC Low Density)
pins: 1 RC7/RX/DT (io), 2 RD4/PSP4 (io), 3 RD5/PSP5 (io), 4 RD6/PSP6 (io), 5 RD7/PSP7 (io), 6 VSS (power), 7 VDD (power), 8 VDD (power), 9 RB0/INT (io), 10 RB1 (io), 11 RB2 (io), 12 RB3/PGM (io), 13 NC, 14 RB4 (io), 15 RB5 (io), 16 RB6/PGC (io), 17 RB7/PGD (io), 18 ~{MCLR}/VPP (in), 19 RA0/AN0 (io), 20 RA1/AN1 (io), 21 RA2/AN2/VREF-/CVREF (io), 22 RA3/AN3/VREF+ (io), 23 RA4/T0CKI/C1OUT (io), 24 RA5/AN4/~{SS}/C2OUT (io), 25 RE0/~{RD}/AN5 (io), 26 RE1/~{WR}/AN6 (io), 27 RE2/~{CS}/AN7 (io), 28 VDD (power), 29 VDD (power), 30 VSS (power), 31 VSS (power), 32 OSC1/CLKI (in), 33 OSC2/CLKO (out), 34 RC0/T1OSO/T1CK1 (io), 35 RC1/T1OSI/CCP2 (io), 36 RC2/CCP1 (io), 37 RC3/SCK/SCL (io), 38 RD0/PSP0 (io), 39 RD1/PSP1 (io), 40 RD2/PSP2 (io), 41 RD3/PSP3 (io), 42 RC4/SDI/SDA (io), 43 RC5/SDO (io), 44 RC6/TX/CK (io), 45 Thermal Pad (power)